# Altium integrated library QuickLogic pASIC 2.IntLib: 96 symbols (part 4 of 7)
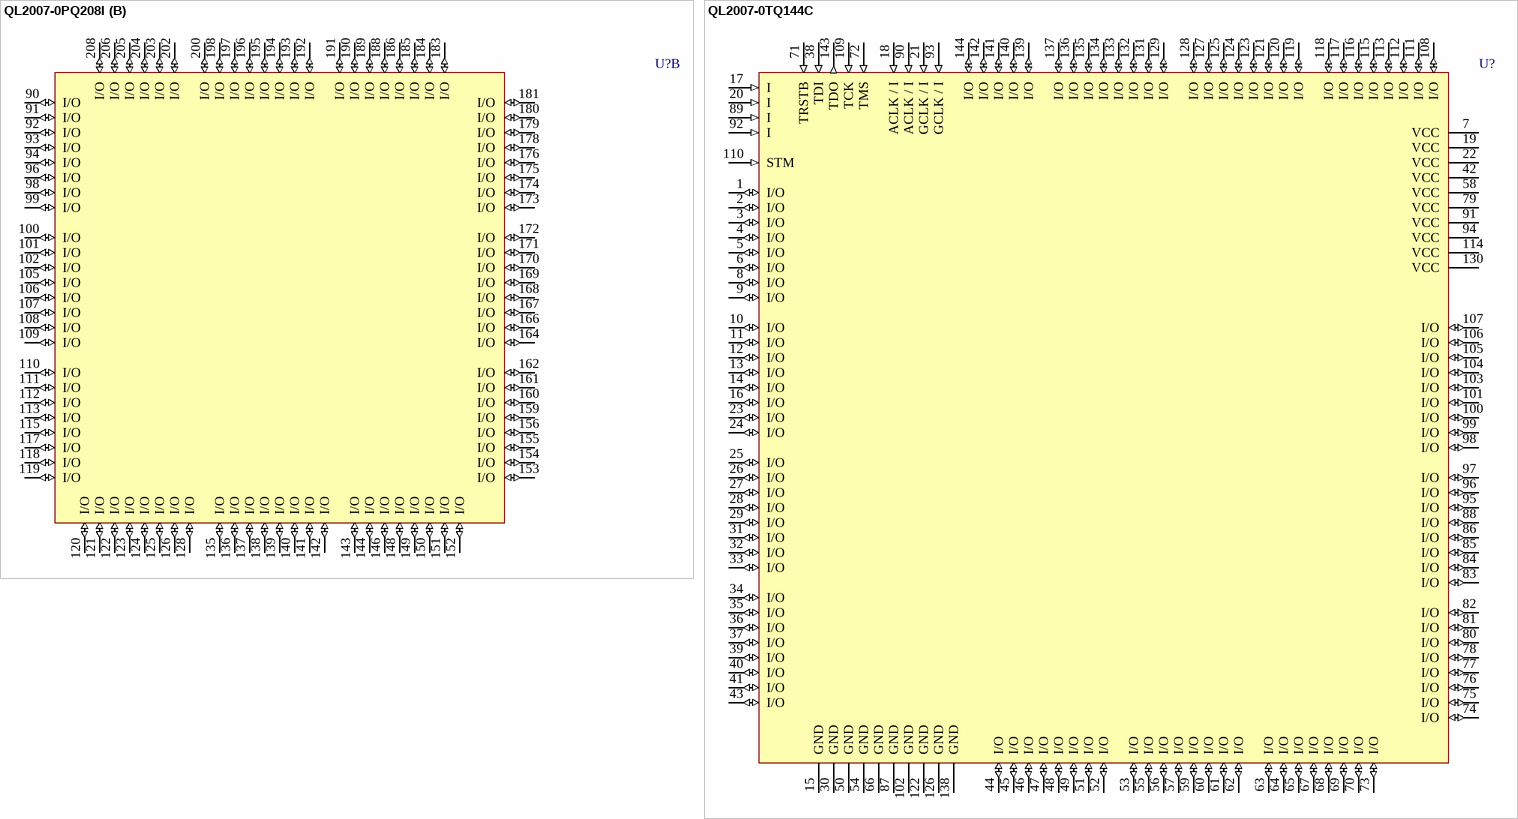
[diagram p45: symbols QL2007-0PQ208I to QL2007-0TQ144C]

## QL2007-0TQ144C
designator U?
3.3V and 5.0V FPGA, 118 I/Os Max; Published: 21-May-2003; LatestRevisionDate: 13-Apr-2006; LatestRevisionNote: IPC-7351 Footprint Added.; DatasheetVersion: Rev. E; PackageVersion: Feb-1992; PackageReference: PF144; Publisher: Altium Limited; PackageDescription: 144-Pin Thin Plastic Quad Flat Pack 0.5 mm Pitch; ComponentLink1Description: Manufacturer Link; ComponentLink1URL: http://www.quicklogic.com/; ComponentLink2Description: Datasheet; ComponentLink2URL: http://www.quicklogic.com/images/QL2007_DS.pdf; ComponentLink3Description: Discontinuation Notice; ComponentLink3URL: http://www.quicklogic.com/images/EOL_Letter_General.pdf
footprint PF144_N (Thin QFP, 144-Leads, Body 20x20mm, Pitch 0.5mm, IPC Medium Density)
footprint PF144_L (Thin QFP, 144-Leads, Body 20x20mm, Pitch 0.5mm, IPC High Density)
footprint PF144_M (Thin QFP, 144-Leads, Body 20x20mm, Pitch 0.5mm, IPC Low Density)
3D model QL2007-PF144 (144-Pin Thin Plastic Quad Flat Pack 0.5 mm Pitch)
pins: 1 I/O (io), 2 I/O (io), 3 I/O (io), 4 I/O (io), 5 I/O (io), 6 I/O (io), 7 VCC (power), 8 I/O (io), 9 I/O (io), 10 I/O (io), 11 I/O (io), 12 I/O (io), 13 I/O (io), 14 I/O (io), 15 GND (power), 16 I/O (io), 17 I (in), 18 ACLK / I (in), 19 VCC (power), 20 I (in), 21 GCLK / I (in), 22 VCC (power), 23 I/O (io), 24 I/O (io), 25 I/O (io), 26 I/O (io), 27 I/O (io), 28 I/O (io), 29 I/O (io), 30 GND (power), 31 I/O (io), 32 I/O (io), 33 I/O (io), 34 I/O (io), 35 I/O (io), 36 I/O (io), 37 I/O (io), 38 TDI (in), 39 I/O (io), 40 I/O (io), 41 I/O (io), 42 VCC (power), 43 I/O (io), 44 I/O (io), 45 I/O (io), 46 I/O (io), 47 I/O (io), 48 I/O (io), 49 I/O (io), 50 GND (power), 51 I/O (io), 52 I/O (io), 53 I/O (io), 54 GND (power), 55 I/O (io), 56 I/O (io), 57 I/O (io), 58 VCC (power), 59 I/O (io), 60 I/O (io), 61 I/O (io), 62 I/O (io), 63 I/O (io), 64 I/O (io), 65 I/O (io), 66 GND (power), 67 I/O (io), 68 I/O (io), 69 I/O (io), 70 I/O (io), 71 TRSTB (in), 72 TMS (in), 73 I/O (io), 74 I/O (io), 75 I/O (io), 76 I/O (io), 77 I/O (io), 78 I/O (io), 79 VCC (power), 80 I/O (io), 81 I/O (io), 82 I/O (io), 83 I/O (io), 84 I/O (io), 85 I/O (io), 86 I/O (io), 87 GND (power), 88 I/O (io), 89 I (in), 90 ACLK / I (in), 91 VCC (power), 92 I (in), 93 GCLK / I (in), 94 VCC (power), 95 I/O (io), 96 I/O (io), 97 I/O (io), 98 I/O (io), 99 I/O (io), 100 I/O (io), 101 I/O (io), 102 GND (power), 103 I/O (io), 104 I/O (io), 105 I/O (io), 106 I/O (io), 107 I/O (io), 108 I/O (io), 109 TCK (in), 110 STM (in), 111 I/O (io), 112 I/O (io), 113 I/O (io), 114 VCC (power), 115 I/O (io), 116 I/O (io), 117 I/O (io), 118 I/O (io), 119 I/O (io), 120 I/O (io), 121 I/O (io), 122 GND (power), 123 I/O (io), 124 I/O (io), 125 I/O (io), 126 GND (power), 127 I/O (io), 128 I/O (io), 129 I/O (io), 130 VCC (power), 131 I/O (io), 132 I/O (io), 133 I/O (io), 134 I/O (io), 135 I/O (io), 136 I/O (io), 137 I/O (io), 138 GND (power), 139 I/O (io), 140 I/O (io), 141 I/O (io), 142 I/O (io), 143 TDO (out), 144 I/O (io)

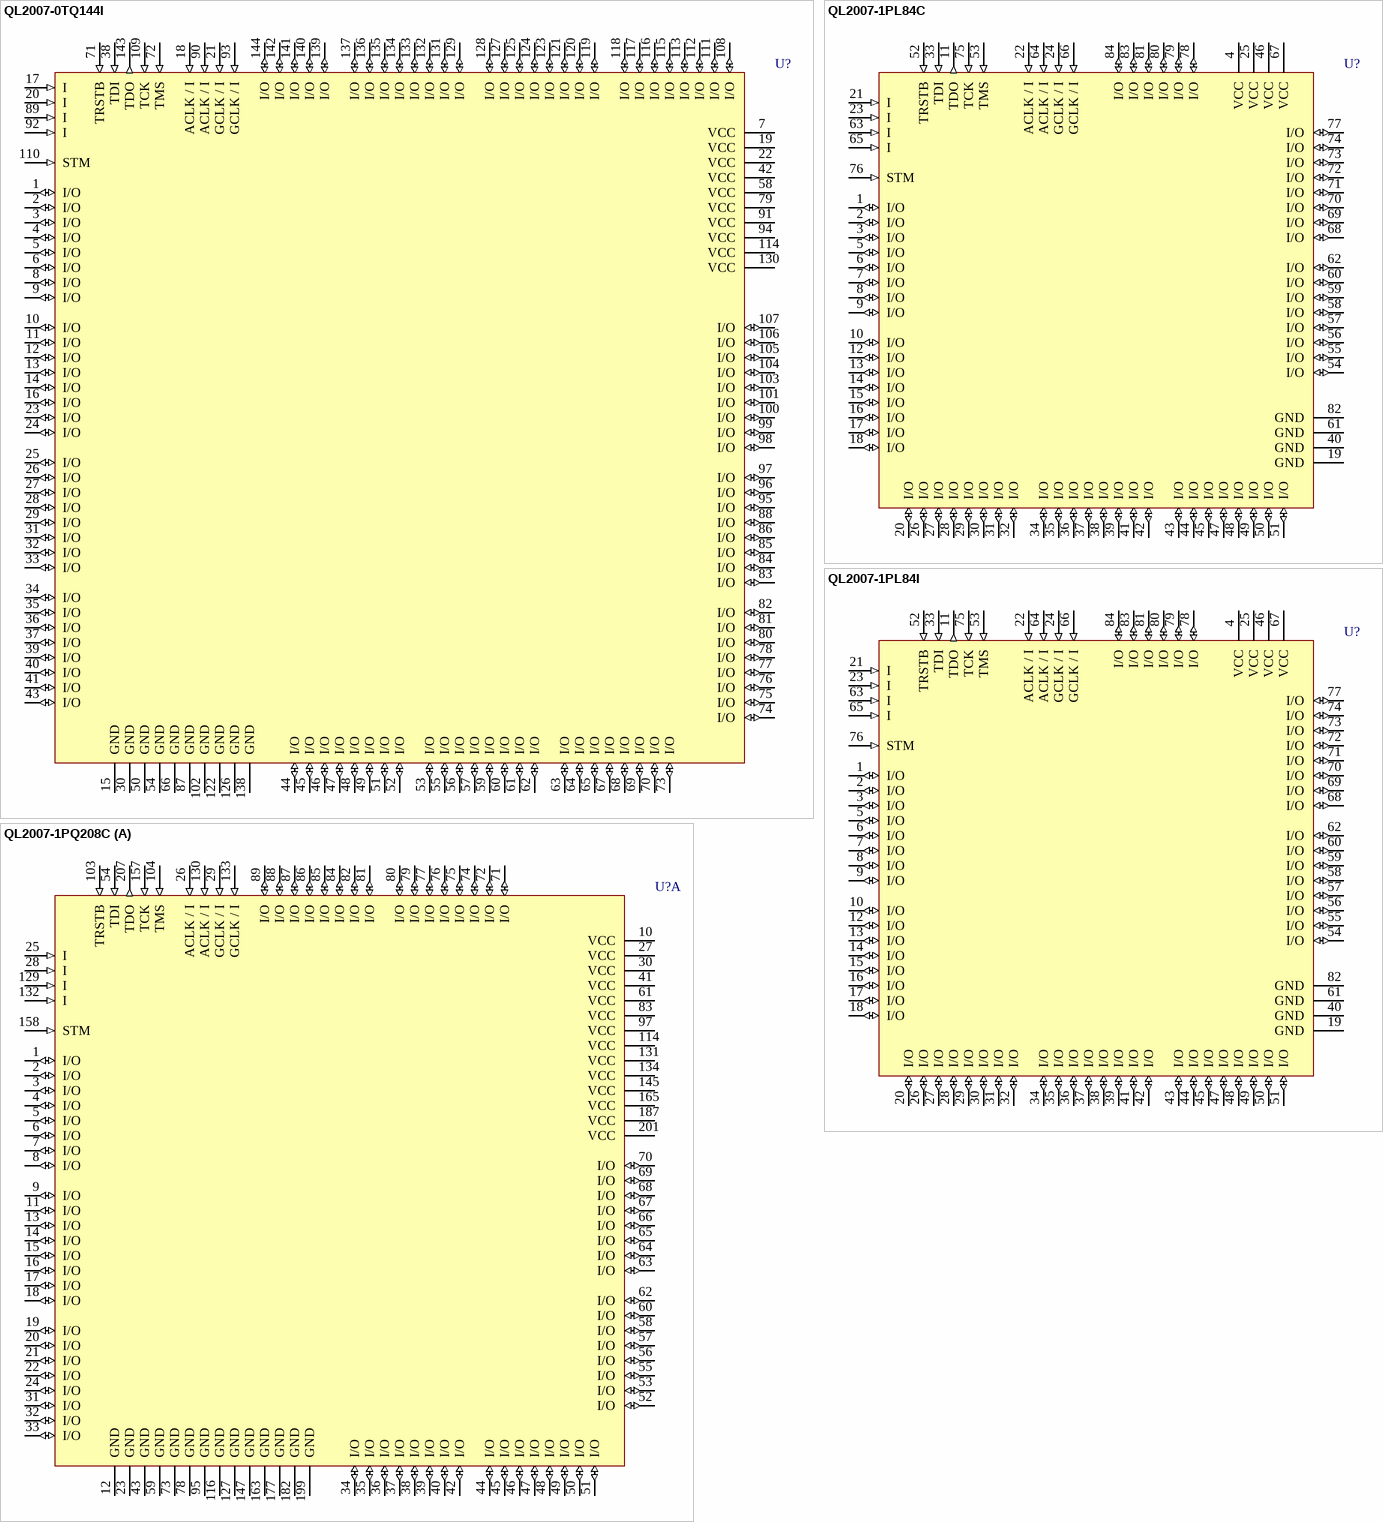
[diagram p19: symbols QL2007-0TQ144I to QL2007-1PQ208C]

## QL2007-0TQ144I
designator U?
3.3V and 5.0V FPGA, 118 I/Os Max; Published: 21-May-2003; LatestRevisionDate: 13-Apr-2006; LatestRevisionNote: IPC-7351 Footprint Added.; DatasheetVersion: Rev. E; PackageVersion: Feb-1992; PackageReference: PF144; Publisher: Altium Limited; PackageDescription: 144-Pin Thin Plastic Quad Flat Pack 0.5 mm Pitch; ComponentLink1Description: Manufacturer Link; ComponentLink1URL: http://www.quicklogic.com/; ComponentLink2Description: Datasheet; ComponentLink2URL: http://www.quicklogic.com/images/QL2007_DS.pdf; ComponentLink3Description: Discontinuation Notice; ComponentLink3URL: http://www.quicklogic.com/images/EOL_Letter_General.pdf
footprint PF144_N (Thin QFP, 144-Leads, Body 20x20mm, Pitch 0.5mm, IPC Medium Density)
footprint PF144_L (Thin QFP, 144-Leads, Body 20x20mm, Pitch 0.5mm, IPC High Density)
footprint PF144_M (Thin QFP, 144-Leads, Body 20x20mm, Pitch 0.5mm, IPC Low Density)
3D model QL2007-PF144 (144-Pin Thin Plastic Quad Flat Pack 0.5 mm Pitch)
pins: 1 I/O (io), 2 I/O (io), 3 I/O (io), 4 I/O (io), 5 I/O (io), 6 I/O (io), 7 VCC (power), 8 I/O (io), 9 I/O (io), 10 I/O (io), 11 I/O (io), 12 I/O (io), 13 I/O (io), 14 I/O (io), 15 GND (power), 16 I/O (io), 17 I (in), 18 ACLK / I (in), 19 VCC (power), 20 I (in), 21 GCLK / I (in), 22 VCC (power), 23 I/O (io), 24 I/O (io), 25 I/O (io), 26 I/O (io), 27 I/O (io), 28 I/O (io), 29 I/O (io), 30 GND (power), 31 I/O (io), 32 I/O (io), 33 I/O (io), 34 I/O (io), 35 I/O (io), 36 I/O (io), 37 I/O (io), 38 TDI (in), 39 I/O (io), 40 I/O (io), 41 I/O (io), 42 VCC (power), 43 I/O (io), 44 I/O (io), 45 I/O (io), 46 I/O (io), 47 I/O (io), 48 I/O (io), 49 I/O (io), 50 GND (power), 51 I/O (io), 52 I/O (io), 53 I/O (io), 54 GND (power), 55 I/O (io), 56 I/O (io), 57 I/O (io), 58 VCC (power), 59 I/O (io), 60 I/O (io), 61 I/O (io), 62 I/O (io), 63 I/O (io), 64 I/O (io), 65 I/O (io), 66 GND (power), 67 I/O (io), 68 I/O (io), 69 I/O (io), 70 I/O (io), 71 TRSTB (in), 72 TMS (in), 73 I/O (io), 74 I/O (io), 75 I/O (io), 76 I/O (io), 77 I/O (io), 78 I/O (io), 79 VCC (power), 80 I/O (io), 81 I/O (io), 82 I/O (io), 83 I/O (io), 84 I/O (io), 85 I/O (io), 86 I/O (io), 87 GND (power), 88 I/O (io), 89 I (in), 90 ACLK / I (in), 91 VCC (power), 92 I (in), 93 GCLK / I (in), 94 VCC (power), 95 I/O (io), 96 I/O (io), 97 I/O (io), 98 I/O (io), 99 I/O (io), 100 I/O (io), 101 I/O (io), 102 GND (power), 103 I/O (io), 104 I/O (io), 105 I/O (io), 106 I/O (io), 107 I/O (io), 108 I/O (io), 109 TCK (in), 110 STM (in), 111 I/O (io), 112 I/O (io), 113 I/O (io), 114 VCC (power), 115 I/O (io), 116 I/O (io), 117 I/O (io), 118 I/O (io), 119 I/O (io), 120 I/O (io), 121 I/O (io), 122 GND (power), 123 I/O (io), 124 I/O (io), 125 I/O (io), 126 GND (power), 127 I/O (io), 128 I/O (io), 129 I/O (io), 130 VCC (power), 131 I/O (io), 132 I/O (io), 133 I/O (io), 134 I/O (io), 135 I/O (io), 136 I/O (io), 137 I/O (io), 138 GND (power), 139 I/O (io), 140 I/O (io), 141 I/O (io), 142 I/O (io), 143 TDO (out), 144 I/O (io)

## QL2007-1PL84C
designator U?
3.3V and 5.0V FPGA, 70 I/Os Max; Published: 21-May-2003; LatestRevisionDate: 13-Apr-2006; LatestRevisionNote: IPC-7351 Footprint Added.; DatasheetVersion: Rev. E; PackageVersion: Feb-1996; PackageReference: PL84; Publisher: Altium Limited; PackageDescription: 84-Pin Plastic Leaded Chip Carrier 1.27 mm Pitch; Code_IPC: PLCC-84; ComponentLink1Description: Manufacturer Link; ComponentLink1URL: http://www.quicklogic.com/; ComponentLink2Description: Datasheet; ComponentLink2URL: http://www.quicklogic.com/images/QL2007_DS.pdf; ComponentLink3Description: Discontinuation Notice; ComponentLink3URL: http://www.quicklogic.com/images/EOL_Letter_General.pdf
footprint PL84_N (Leaded Chip Carrier, 84-Leads, Body 29.3x29.3mm, Pitch 1.27mm, IPC Medium Density)
footprint PL84_L (Leaded Chip Carrier, 84-Leads, Body 29.3x29.3mm, Pitch 1.27mm, IPC High Density)
footprint PL84_M (Leaded Chip Carrier, 84-Leads, Body 29.3x29.3mm, Pitch 1.27mm, IPC Low Density)
3D model QL2007-QCC-J84 (84-Pin Plastic Leaded Chip Carrier 1.27 mm Pitch)
pins: 1 I/O (io), 2 I/O (io), 3 I/O (io), 4 VCC (power), 5 I/O (io), 6 I/O (io), 7 I/O (io), 8 I/O (io), 9 I/O (io), 10 I/O (io), 11 TDO (out), 12 I/O (io), 13 I/O (io), 14 I/O (io), 15 I/O (io), 16 I/O (io), 17 I/O (io), 18 I/O (io), 19 GND (power), 20 I/O (io), 21 I (in), 22 ACLK / I (in), 23 I (in), 24 GCLK / I (in), 25 VCC (power), 26 I/O (io), 27 I/O (io), 28 I/O (io), 29 I/O (io), 30 I/O (io), 31 I/O (io), 32 I/O (io), 33 TDI (in), 34 I/O (io), 35 I/O (io), 36 I/O (io), 37 I/O (io), 38 I/O (io), 39 I/O (io), 40 GND (power), 41 I/O (io), 42 I/O (io), 43 I/O (io), 44 I/O (io), 45 I/O (io), 46 VCC (power), 47 I/O (io), 48 I/O (io), 49 I/O (io), 50 I/O (io), 51 I/O (io), 52 TRSTB (in), 53 TMS (in), 54 I/O (io), 55 I/O (io), 56 I/O (io), 57 I/O (io), 58 I/O (io), 59 I/O (io), 60 I/O (io), 61 GND (power), 62 I/O (io), 63 I (in), 64 ACLK / I (in), 65 I (in), 66 GCLK / I (in), 67 VCC (power), 68 I/O (io), 69 I/O (io), 70 I/O (io), 71 I/O (io), 72 I/O (io), 73 I/O (io), 74 I/O (io), 75 TCK (in), 76 STM (in), 77 I/O (io), 78 I/O (io), 79 I/O (io), 80 I/O (io), 81 I/O (io), 82 GND (power), 83 I/O (io), 84 I/O (io)

## QL2007-1PL84I
designator U?
3.3V and 5.0V FPGA, 70 I/Os Max; Published: 21-May-2003; LatestRevisionDate: 13-Apr-2006; LatestRevisionNote: IPC-7351 Footprint Added.; DatasheetVersion: Rev. E; PackageVersion: Feb-1996; PackageReference: PL84; Publisher: Altium Limited; PackageDescription: 84-Pin Plastic Leaded Chip Carrier 1.27 mm Pitch; Code_IPC: PLCC-84; ComponentLink1Description: Manufacturer Link; ComponentLink1URL: http://www.quicklogic.com/; ComponentLink2Description: Datasheet; ComponentLink2URL: http://www.quicklogic.com/images/QL2007_DS.pdf; ComponentLink3Description: Discontinuation Notice; ComponentLink3URL: http://www.quicklogic.com/images/EOL_Letter_General.pdf
footprint PL84_N (Leaded Chip Carrier, 84-Leads, Body 29.3x29.3mm, Pitch 1.27mm, IPC Medium Density)
footprint PL84_L (Leaded Chip Carrier, 84-Leads, Body 29.3x29.3mm, Pitch 1.27mm, IPC High Density)
footprint PL84_M (Leaded Chip Carrier, 84-Leads, Body 29.3x29.3mm, Pitch 1.27mm, IPC Low Density)
3D model QL2007-QCC-J84 (84-Pin Plastic Leaded Chip Carrier 1.27 mm Pitch)
pins: 1 I/O (io), 2 I/O (io), 3 I/O (io), 4 VCC (power), 5 I/O (io), 6 I/O (io), 7 I/O (io), 8 I/O (io), 9 I/O (io), 10 I/O (io), 11 TDO (out), 12 I/O (io), 13 I/O (io), 14 I/O (io), 15 I/O (io), 16 I/O (io), 17 I/O (io), 18 I/O (io), 19 GND (power), 20 I/O (io), 21 I (in), 22 ACLK / I (in), 23 I (in), 24 GCLK / I (in), 25 VCC (power), 26 I/O (io), 27 I/O (io), 28 I/O (io), 29 I/O (io), 30 I/O (io), 31 I/O (io), 32 I/O (io), 33 TDI (in), 34 I/O (io), 35 I/O (io), 36 I/O (io), 37 I/O (io), 38 I/O (io), 39 I/O (io), 40 GND (power), 41 I/O (io), 42 I/O (io), 43 I/O (io), 44 I/O (io), 45 I/O (io), 46 VCC (power), 47 I/O (io), 48 I/O (io), 49 I/O (io), 50 I/O (io), 51 I/O (io), 52 TRSTB (in), 53 TMS (in), 54 I/O (io), 55 I/O (io), 56 I/O (io), 57 I/O (io), 58 I/O (io), 59 I/O (io), 60 I/O (io), 61 GND (power), 62 I/O (io), 63 I (in), 64 ACLK / I (in), 65 I (in), 66 GCLK / I (in), 67 VCC (power), 68 I/O (io), 69 I/O (io), 70 I/O (io), 71 I/O (io), 72 I/O (io), 73 I/O (io), 74 I/O (io), 75 TCK (in), 76 STM (in), 77 I/O (io), 78 I/O (io), 79 I/O (io), 80 I/O (io), 81 I/O (io), 82 GND (power), 83 I/O (io), 84 I/O (io)

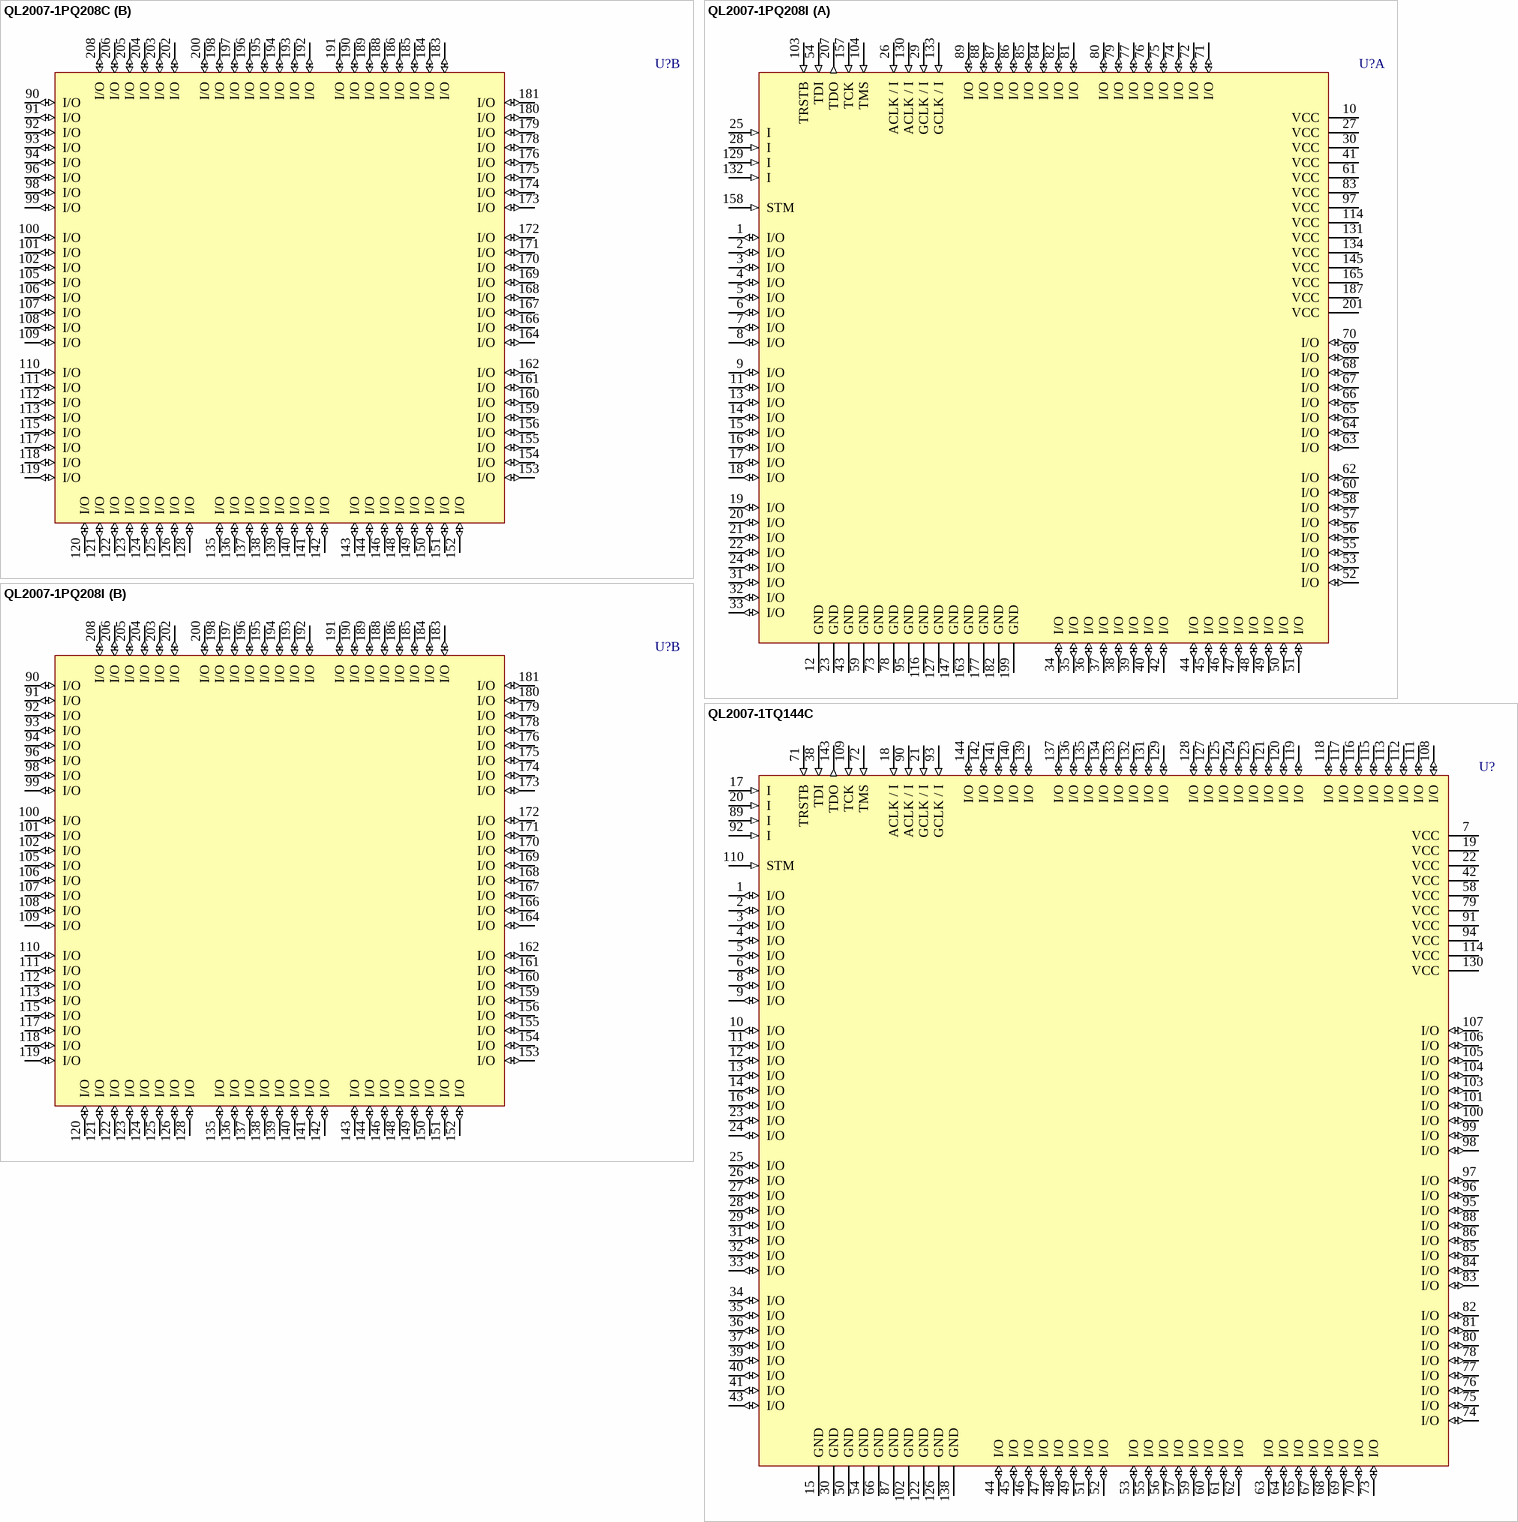
[diagram p20: symbols QL2007-1PQ208C to QL2007-1TQ144C]

## QL2007-1PQ208C
designator U?
3.3V and 5.0V FPGA, 174 I/Os Max; Published: 21-May-2003; LatestRevisionDate: 13-Apr-2006; LatestRevisionNote: IPC-7351 Footprint Added.; DatasheetVersion: Rev. E; PackageVersion: Feb-1995; PackageReference: PQ208; Publisher: Altium Limited; PackageDescription: 208-Pin Shrink Quad Flat Pack 0.5 mm Pitch; ComponentLink1Description: Manufacturer Link; ComponentLink1URL: http://www.quicklogic.com/; ComponentLink2Description: Datasheet; ComponentLink2URL: http://www.quicklogic.com/images/QL2007_DS.pdf; ComponentLink3Description: Discontinuation Notice; ComponentLink3URL: http://www.quicklogic.com/images/EOL_Letter_General.pdf
footprint PQ208_N (Shrink QFP, 208-Leads, Body 28x28mm, Pitch 0.5mm, IPC Medium Density)
footprint PQ208_L (Shrink QFP, 208-Leads, Body 28x28mm, Pitch 0.5mm, IPC High Density)
footprint PQ208_M (Shrink QFP, 208-Leads, Body 28x28mm, Pitch 0.5mm, IPC Low Density)
3D model QL2007-PQ208 (208-Pin Shrink Quad Flat Pack 0.5 mm Pitch)
part A pins: 1 I/O (io), 2 I/O (io), 3 I/O (io), 4 I/O (io), 5 I/O (io), 6 I/O (io), 7 I/O (io), 8 I/O (io), 9 I/O (io), 10 VCC (power), 11 I/O (io), 12 GND (power), 13 I/O (io), 14 I/O (io), 15 I/O (io), 16 I/O (io), 17 I/O (io), 18 I/O (io), 19 I/O (io), 20 I/O (io), 21 I/O (io), 22 I/O (io), 23 GND (power), 24 I/O (io), 25 I (in), 26 ACLK / I (in), 27 VCC (power), 28 I (in), 29 GCLK / I (in), 30 VCC (power), 31 I/O (io), 32 I/O (io), 33 I/O (io), 34 I/O (io), 35 I/O (io), 36 I/O (io), 37 I/O (io), 38 I/O (io), 39 I/O (io), 40 I/O (io), 41 VCC (power), 42 I/O (io), 43 GND (power), 44 I/O (io), 45 I/O (io), 46 I/O (io), 47 I/O (io), 48 I/O (io), 49 I/O (io), 50 I/O (io), 51 I/O (io), 52 I/O (io), 53 I/O (io), 54 TDI (in), 55 I/O (io), 56 I/O (io), 57 I/O (io), 58 I/O (io), 59 GND (power), 60 I/O (io), 61 VCC (power), 62 I/O (io), 63 I/O (io), 64 I/O (io), 65 I/O (io), 66 I/O (io), 67 I/O (io), 68 I/O (io), 69 I/O (io), 70 I/O (io), 71 I/O (io), 72 I/O (io), 73 GND (power), 74 I/O (io), 75 I/O (io), 76 I/O (io), 77 I/O (io), 78 GND (power), 79 I/O (io), 80 I/O (io), 81 I/O (io), 82 I/O (io), 83 VCC (power), 84 I/O (io), 85 I/O (io), 86 I/O (io), 87 I/O (io), 88 I/O (io), 89 I/O (io), 95 GND (power), 97 VCC (power), 103 TRSTB (in), 104 TMS (in), 114 VCC (power), 116 GND (power), 127 GND (power), 129 I (in), 130 ACLK / I (in), 131 VCC (power), 132 I (in), 133 GCLK / I (in), 134 VCC (power), 145 VCC (power), 147 GND (power), 157 TCK (in), 158 STM (in), 163 GND (power), 165 VCC (power), 177 GND (power), 182 GND (power), 187 VCC (power), 199 GND (power), 201 VCC (power), 207 TDO (out)
part B pins: 90 I/O (io), 91 I/O (io), 92 I/O (io), 93 I/O (io), 94 I/O (io), 96 I/O (io), 98 I/O (io), 99 I/O (io), 100 I/O (io), 101 I/O (io), 102 I/O (io), 105 I/O (io), 106 I/O (io), 107 I/O (io), 108 I/O (io), 109 I/O (io), 110 I/O (io), 111 I/O (io), 112 I/O (io), 113 I/O (io), 115 I/O (io), 117 I/O (io), 118 I/O (io), 119 I/O (io), 120 I/O (io), 121 I/O (io), 122 I/O (io), 123 I/O (io), 124 I/O (io), 125 I/O (io), 126 I/O (io), 128 I/O (io), 135 I/O (io), 136 I/O (io), 137 I/O (io), 138 I/O (io), 139 I/O (io), 140 I/O (io), 141 I/O (io), 142 I/O (io), 143 I/O (io), 144 I/O (io), 146 I/O (io), 148 I/O (io), 149 I/O (io), 150 I/O (io), 151 I/O (io), 152 I/O (io), 153 I/O (io), 154 I/O (io), 155 I/O (io), 156 I/O (io), 159 I/O (io), 160 I/O (io), 161 I/O (io), 162 I/O (io), 164 I/O (io), 166 I/O (io), 167 I/O (io), 168 I/O (io), 169 I/O (io), 170 I/O (io), 171 I/O (io), 172 I/O (io), 173 I/O (io), 174 I/O (io), 175 I/O (io), 176 I/O (io), 178 I/O (io), 179 I/O (io), 180 I/O (io), 181 I/O (io), 183 I/O (io), 184 I/O (io), 185 I/O (io), 186 I/O (io), 188 I/O (io), 189 I/O (io), 190 I/O (io), 191 I/O (io), 192 I/O (io), 193 I/O (io), 194 I/O (io), 195 I/O (io), 196 I/O (io), 197 I/O (io), 198 I/O (io), 200 I/O (io), 202 I/O (io), 203 I/O (io), 204 I/O (io), 205 I/O (io), 206 I/O (io), 208 I/O (io)

## QL2007-1PQ208I
designator U?
3.3V and 5.0V FPGA, 174 I/Os Max; Published: 21-May-2003; LatestRevisionDate: 13-Apr-2006; LatestRevisionNote: IPC-7351 Footprint Added.; DatasheetVersion: Rev. E; PackageVersion: Feb-1995; PackageReference: PQ208; Publisher: Altium Limited; PackageDescription: 208-Pin Shrink Quad Flat Pack 0.5 mm Pitch; ComponentLink1Description: Manufacturer Link; ComponentLink1URL: http://www.quicklogic.com/; ComponentLink2Description: Datasheet; ComponentLink2URL: http://www.quicklogic.com/images/QL2007_DS.pdf; ComponentLink3Description: Discontinuation Notice; ComponentLink3URL: http://www.quicklogic.com/images/EOL_Letter_General.pdf
footprint PQ208_N (Shrink QFP, 208-Leads, Body 28x28mm, Pitch 0.5mm, IPC Medium Density)
footprint PQ208_L (Shrink QFP, 208-Leads, Body 28x28mm, Pitch 0.5mm, IPC High Density)
footprint PQ208_M (Shrink QFP, 208-Leads, Body 28x28mm, Pitch 0.5mm, IPC Low Density)
3D model QL2007-PQ208 (208-Pin Shrink Quad Flat Pack 0.5 mm Pitch)
part A pins: 1 I/O (io), 2 I/O (io), 3 I/O (io), 4 I/O (io), 5 I/O (io), 6 I/O (io), 7 I/O (io), 8 I/O (io), 9 I/O (io), 10 VCC (power), 11 I/O (io), 12 GND (power), 13 I/O (io), 14 I/O (io), 15 I/O (io), 16 I/O (io), 17 I/O (io), 18 I/O (io), 19 I/O (io), 20 I/O (io), 21 I/O (io), 22 I/O (io), 23 GND (power), 24 I/O (io), 25 I (in), 26 ACLK / I (in), 27 VCC (power), 28 I (in), 29 GCLK / I (in), 30 VCC (power), 31 I/O (io), 32 I/O (io), 33 I/O (io), 34 I/O (io), 35 I/O (io), 36 I/O (io), 37 I/O (io), 38 I/O (io), 39 I/O (io), 40 I/O (io), 41 VCC (power), 42 I/O (io), 43 GND (power), 44 I/O (io), 45 I/O (io), 46 I/O (io), 47 I/O (io), 48 I/O (io), 49 I/O (io), 50 I/O (io), 51 I/O (io), 52 I/O (io), 53 I/O (io), 54 TDI (in), 55 I/O (io), 56 I/O (io), 57 I/O (io), 58 I/O (io), 59 GND (power), 60 I/O (io), 61 VCC (power), 62 I/O (io), 63 I/O (io), 64 I/O (io), 65 I/O (io), 66 I/O (io), 67 I/O (io), 68 I/O (io), 69 I/O (io), 70 I/O (io), 71 I/O (io), 72 I/O (io), 73 GND (power), 74 I/O (io), 75 I/O (io), 76 I/O (io), 77 I/O (io), 78 GND (power), 79 I/O (io), 80 I/O (io), 81 I/O (io), 82 I/O (io), 83 VCC (power), 84 I/O (io), 85 I/O (io), 86 I/O (io), 87 I/O (io), 88 I/O (io), 89 I/O (io), 95 GND (power), 97 VCC (power), 103 TRSTB (in), 104 TMS (in), 114 VCC (power), 116 GND (power), 127 GND (power), 129 I (in), 130 ACLK / I (in), 131 VCC (power), 132 I (in), 133 GCLK / I (in), 134 VCC (power), 145 VCC (power), 147 GND (power), 157 TCK (in), 158 STM (in), 163 GND (power), 165 VCC (power), 177 GND (power), 182 GND (power), 187 VCC (power), 199 GND (power), 201 VCC (power), 207 TDO (out)
part B pins: 90 I/O (io), 91 I/O (io), 92 I/O (io), 93 I/O (io), 94 I/O (io), 96 I/O (io), 98 I/O (io), 99 I/O (io), 100 I/O (io), 101 I/O (io), 102 I/O (io), 105 I/O (io), 106 I/O (io), 107 I/O (io), 108 I/O (io), 109 I/O (io), 110 I/O (io), 111 I/O (io), 112 I/O (io), 113 I/O (io), 115 I/O (io), 117 I/O (io), 118 I/O (io), 119 I/O (io), 120 I/O (io), 121 I/O (io), 122 I/O (io), 123 I/O (io), 124 I/O (io), 125 I/O (io), 126 I/O (io), 128 I/O (io), 135 I/O (io), 136 I/O (io), 137 I/O (io), 138 I/O (io), 139 I/O (io), 140 I/O (io), 141 I/O (io), 142 I/O (io), 143 I/O (io), 144 I/O (io), 146 I/O (io), 148 I/O (io), 149 I/O (io), 150 I/O (io), 151 I/O (io), 152 I/O (io), 153 I/O (io), 154 I/O (io), 155 I/O (io), 156 I/O (io), 159 I/O (io), 160 I/O (io), 161 I/O (io), 162 I/O (io), 164 I/O (io), 166 I/O (io), 167 I/O (io), 168 I/O (io), 169 I/O (io), 170 I/O (io), 171 I/O (io), 172 I/O (io), 173 I/O (io), 174 I/O (io), 175 I/O (io), 176 I/O (io), 178 I/O (io), 179 I/O (io), 180 I/O (io), 181 I/O (io), 183 I/O (io), 184 I/O (io), 185 I/O (io), 186 I/O (io), 188 I/O (io), 189 I/O (io), 190 I/O (io), 191 I/O (io), 192 I/O (io), 193 I/O (io), 194 I/O (io), 195 I/O (io), 196 I/O (io), 197 I/O (io), 198 I/O (io), 200 I/O (io), 202 I/O (io), 203 I/O (io), 204 I/O (io), 205 I/O (io), 206 I/O (io), 208 I/O (io)

## QL2007-1TQ144C
designator U?
3.3V and 5.0V FPGA, 118 I/Os Max; Published: 21-May-2003; LatestRevisionDate: 13-Apr-2006; LatestRevisionNote: IPC-7351 Footprint Added.; DatasheetVersion: Rev. E; PackageVersion: Feb-1992; PackageReference: PF144; Publisher: Altium Limited; PackageDescription: 144-Pin Thin Plastic Quad Flat Pack 0.5 mm Pitch; ComponentLink1Description: Manufacturer Link; ComponentLink1URL: http://www.quicklogic.com/; ComponentLink2Description: Datasheet; ComponentLink2URL: http://www.quicklogic.com/images/QL2007_DS.pdf; ComponentLink3Description: Discontinuation Notice; ComponentLink3URL: http://www.quicklogic.com/images/EOL_Letter_General.pdf
footprint PF144_N (Thin QFP, 144-Leads, Body 20x20mm, Pitch 0.5mm, IPC Medium Density)
footprint PF144_L (Thin QFP, 144-Leads, Body 20x20mm, Pitch 0.5mm, IPC High Density)
footprint PF144_M (Thin QFP, 144-Leads, Body 20x20mm, Pitch 0.5mm, IPC Low Density)
3D model QL2007-PF144 (144-Pin Thin Plastic Quad Flat Pack 0.5 mm Pitch)
pins: 1 I/O (io), 2 I/O (io), 3 I/O (io), 4 I/O (io), 5 I/O (io), 6 I/O (io), 7 VCC (power), 8 I/O (io), 9 I/O (io), 10 I/O (io), 11 I/O (io), 12 I/O (io), 13 I/O (io), 14 I/O (io), 15 GND (power), 16 I/O (io), 17 I (in), 18 ACLK / I (in), 19 VCC (power), 20 I (in), 21 GCLK / I (in), 22 VCC (power), 23 I/O (io), 24 I/O (io), 25 I/O (io), 26 I/O (io), 27 I/O (io), 28 I/O (io), 29 I/O (io), 30 GND (power), 31 I/O (io), 32 I/O (io), 33 I/O (io), 34 I/O (io), 35 I/O (io), 36 I/O (io), 37 I/O (io), 38 TDI (in), 39 I/O (io), 40 I/O (io), 41 I/O (io), 42 VCC (power), 43 I/O (io), 44 I/O (io), 45 I/O (io), 46 I/O (io), 47 I/O (io), 48 I/O (io), 49 I/O (io), 50 GND (power), 51 I/O (io), 52 I/O (io), 53 I/O (io), 54 GND (power), 55 I/O (io), 56 I/O (io), 57 I/O (io), 58 VCC (power), 59 I/O (io), 60 I/O (io), 61 I/O (io), 62 I/O (io), 63 I/O (io), 64 I/O (io), 65 I/O (io), 66 GND (power), 67 I/O (io), 68 I/O (io), 69 I/O (io), 70 I/O (io), 71 TRSTB (in), 72 TMS (in), 73 I/O (io), 74 I/O (io), 75 I/O (io), 76 I/O (io), 77 I/O (io), 78 I/O (io), 79 VCC (power), 80 I/O (io), 81 I/O (io), 82 I/O (io), 83 I/O (io), 84 I/O (io), 85 I/O (io), 86 I/O (io), 87 GND (power), 88 I/O (io), 89 I (in), 90 ACLK / I (in), 91 VCC (power), 92 I (in), 93 GCLK / I (in), 94 VCC (power), 95 I/O (io), 96 I/O (io), 97 I/O (io), 98 I/O (io), 99 I/O (io), 100 I/O (io), 101 I/O (io), 102 GND (power), 103 I/O (io), 104 I/O (io), 105 I/O (io), 106 I/O (io), 107 I/O (io), 108 I/O (io), 109 TCK (in), 110 STM (in), 111 I/O (io), 112 I/O (io), 113 I/O (io), 114 VCC (power), 115 I/O (io), 116 I/O (io), 117 I/O (io), 118 I/O (io), 119 I/O (io), 120 I/O (io), 121 I/O (io), 122 GND (power), 123 I/O (io), 124 I/O (io), 125 I/O (io), 126 GND (power), 127 I/O (io), 128 I/O (io), 129 I/O (io), 130 VCC (power), 131 I/O (io), 132 I/O (io), 133 I/O (io), 134 I/O (io), 135 I/O (io), 136 I/O (io), 137 I/O (io), 138 GND (power), 139 I/O (io), 140 I/O (io), 141 I/O (io), 142 I/O (io), 143 TDO (out), 144 I/O (io)

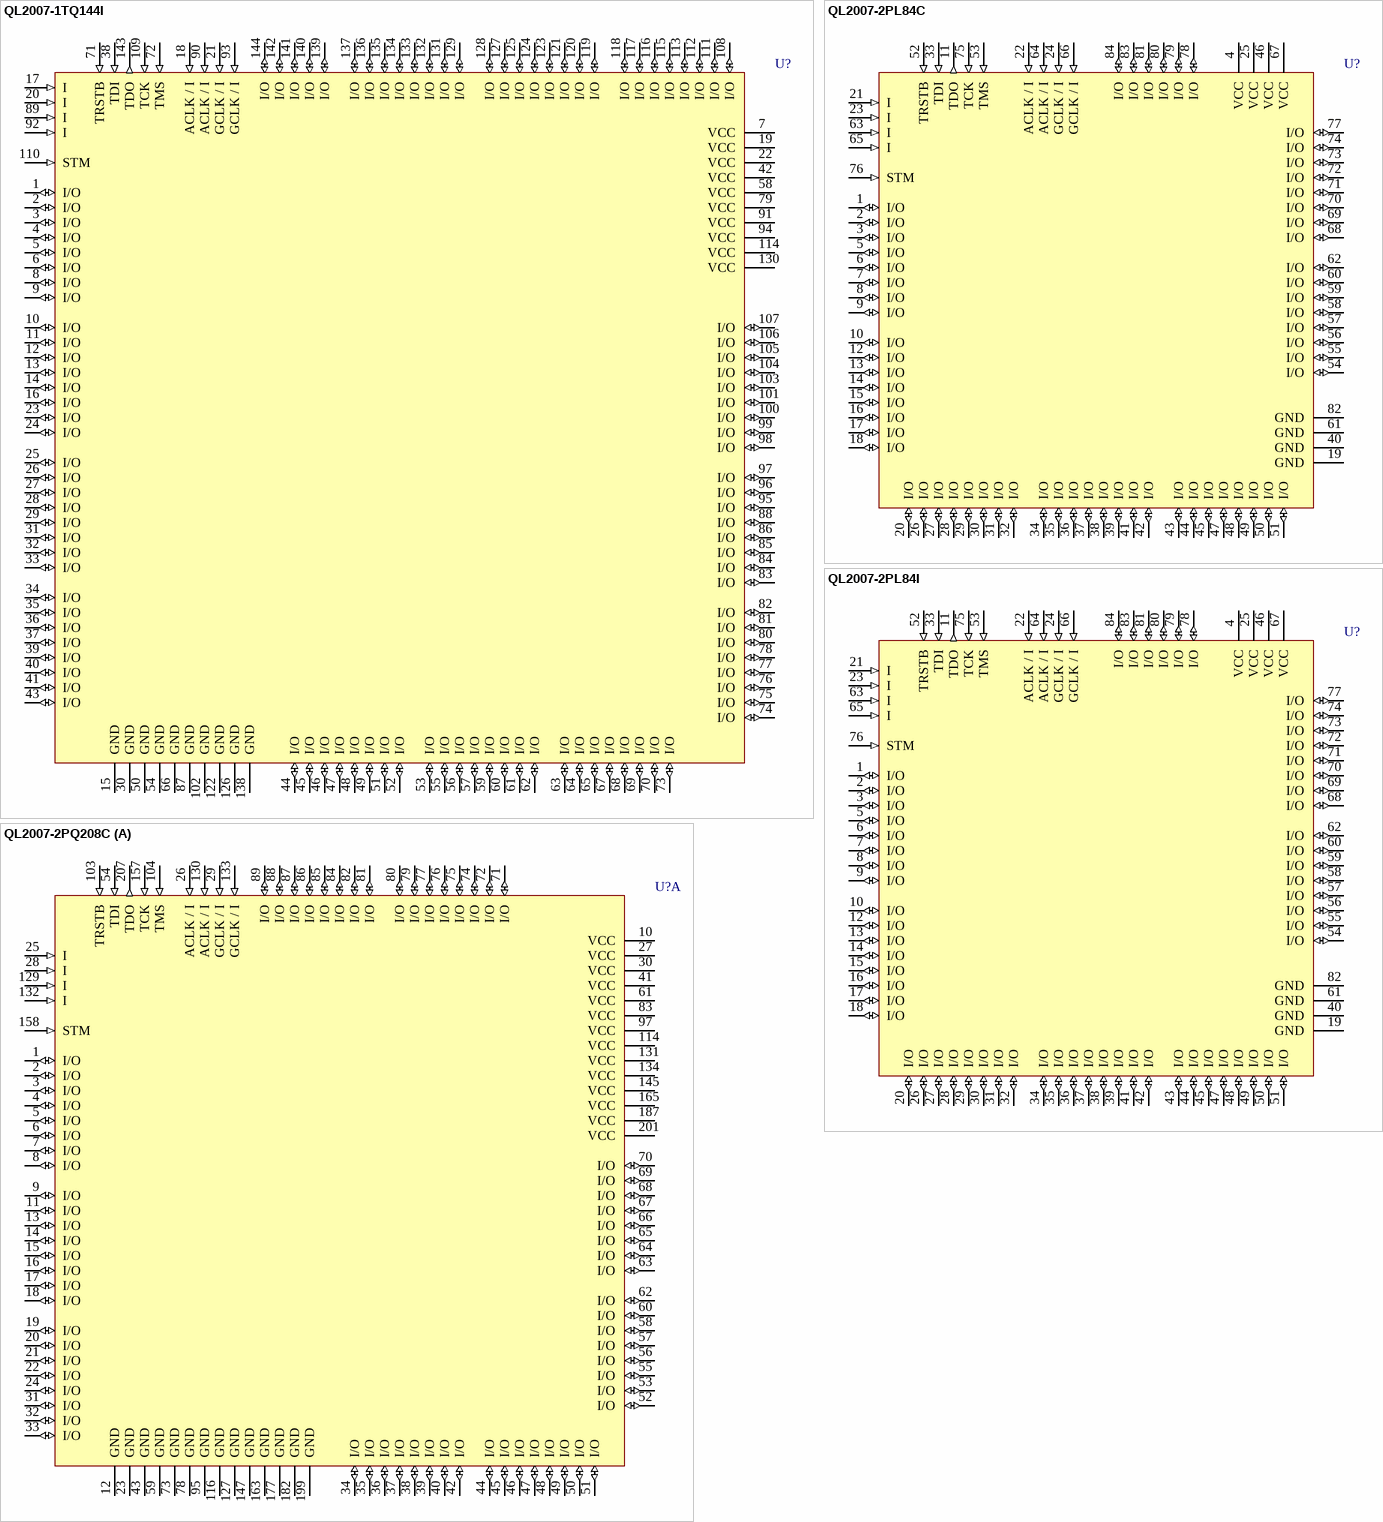
[diagram p21: symbols QL2007-1TQ144I to QL2007-2PQ208C]

## QL2007-1TQ144I
designator U?
3.3V and 5.0V FPGA, 118 I/Os Max; Published: 21-May-2003; LatestRevisionDate: 13-Apr-2006; LatestRevisionNote: IPC-7351 Footprint Added.; DatasheetVersion: Rev. E; PackageVersion: Feb-1992; PackageReference: PF144; Publisher: Altium Limited; PackageDescription: 144-Pin Thin Plastic Quad Flat Pack 0.5 mm Pitch; ComponentLink1Description: Manufacturer Link; ComponentLink1URL: http://www.quicklogic.com/; ComponentLink2Description: Datasheet; ComponentLink2URL: http://www.quicklogic.com/images/QL2007_DS.pdf; ComponentLink3Description: Discontinuation Notice; ComponentLink3URL: http://www.quicklogic.com/images/EOL_Letter_General.pdf
footprint PF144_N (Thin QFP, 144-Leads, Body 20x20mm, Pitch 0.5mm, IPC Medium Density)
footprint PF144_L (Thin QFP, 144-Leads, Body 20x20mm, Pitch 0.5mm, IPC High Density)
footprint PF144_M (Thin QFP, 144-Leads, Body 20x20mm, Pitch 0.5mm, IPC Low Density)
3D model QL2007-PF144 (144-Pin Thin Plastic Quad Flat Pack 0.5 mm Pitch)
pins: 1 I/O (io), 2 I/O (io), 3 I/O (io), 4 I/O (io), 5 I/O (io), 6 I/O (io), 7 VCC (power), 8 I/O (io), 9 I/O (io), 10 I/O (io), 11 I/O (io), 12 I/O (io), 13 I/O (io), 14 I/O (io), 15 GND (power), 16 I/O (io), 17 I (in), 18 ACLK / I (in), 19 VCC (power), 20 I (in), 21 GCLK / I (in), 22 VCC (power), 23 I/O (io), 24 I/O (io), 25 I/O (io), 26 I/O (io), 27 I/O (io), 28 I/O (io), 29 I/O (io), 30 GND (power), 31 I/O (io), 32 I/O (io), 33 I/O (io), 34 I/O (io), 35 I/O (io), 36 I/O (io), 37 I/O (io), 38 TDI (in), 39 I/O (io), 40 I/O (io), 41 I/O (io), 42 VCC (power), 43 I/O (io), 44 I/O (io), 45 I/O (io), 46 I/O (io), 47 I/O (io), 48 I/O (io), 49 I/O (io), 50 GND (power), 51 I/O (io), 52 I/O (io), 53 I/O (io), 54 GND (power), 55 I/O (io), 56 I/O (io), 57 I/O (io), 58 VCC (power), 59 I/O (io), 60 I/O (io), 61 I/O (io), 62 I/O (io), 63 I/O (io), 64 I/O (io), 65 I/O (io), 66 GND (power), 67 I/O (io), 68 I/O (io), 69 I/O (io), 70 I/O (io), 71 TRSTB (in), 72 TMS (in), 73 I/O (io), 74 I/O (io), 75 I/O (io), 76 I/O (io), 77 I/O (io), 78 I/O (io), 79 VCC (power), 80 I/O (io), 81 I/O (io), 82 I/O (io), 83 I/O (io), 84 I/O (io), 85 I/O (io), 86 I/O (io), 87 GND (power), 88 I/O (io), 89 I (in), 90 ACLK / I (in), 91 VCC (power), 92 I (in), 93 GCLK / I (in), 94 VCC (power), 95 I/O (io), 96 I/O (io), 97 I/O (io), 98 I/O (io), 99 I/O (io), 100 I/O (io), 101 I/O (io), 102 GND (power), 103 I/O (io), 104 I/O (io), 105 I/O (io), 106 I/O (io), 107 I/O (io), 108 I/O (io), 109 TCK (in), 110 STM (in), 111 I/O (io), 112 I/O (io), 113 I/O (io), 114 VCC (power), 115 I/O (io), 116 I/O (io), 117 I/O (io), 118 I/O (io), 119 I/O (io), 120 I/O (io), 121 I/O (io), 122 GND (power), 123 I/O (io), 124 I/O (io), 125 I/O (io), 126 GND (power), 127 I/O (io), 128 I/O (io), 129 I/O (io), 130 VCC (power), 131 I/O (io), 132 I/O (io), 133 I/O (io), 134 I/O (io), 135 I/O (io), 136 I/O (io), 137 I/O (io), 138 GND (power), 139 I/O (io), 140 I/O (io), 141 I/O (io), 142 I/O (io), 143 TDO (out), 144 I/O (io)

## QL2007-2PL84C
designator U?
3.3V and 5.0V FPGA, 70 I/Os Max; Published: 21-May-2003; LatestRevisionDate: 13-Apr-2006; LatestRevisionNote: IPC-7351 Footprint Added.; DatasheetVersion: Rev. E; PackageVersion: Feb-1996; PackageReference: PL84; Publisher: Altium Limited; PackageDescription: 84-Pin Plastic Leaded Chip Carrier 1.27 mm Pitch; Code_IPC: PLCC-84; ComponentLink1Description: Manufacturer Link; ComponentLink1URL: http://www.quicklogic.com/; ComponentLink2Description: Datasheet; ComponentLink2URL: http://www.quicklogic.com/images/QL2007_DS.pdf; ComponentLink3Description: Discontinuation Notice; ComponentLink3URL: http://www.quicklogic.com/images/EOL_Letter_General.pdf
footprint PL84_N (Leaded Chip Carrier, 84-Leads, Body 29.3x29.3mm, Pitch 1.27mm, IPC Medium Density)
footprint PL84_L (Leaded Chip Carrier, 84-Leads, Body 29.3x29.3mm, Pitch 1.27mm, IPC High Density)
footprint PL84_M (Leaded Chip Carrier, 84-Leads, Body 29.3x29.3mm, Pitch 1.27mm, IPC Low Density)
3D model QL2007-QCC-J84 (84-Pin Plastic Leaded Chip Carrier 1.27 mm Pitch)
pins: 1 I/O (io), 2 I/O (io), 3 I/O (io), 4 VCC (power), 5 I/O (io), 6 I/O (io), 7 I/O (io), 8 I/O (io), 9 I/O (io), 10 I/O (io), 11 TDO (out), 12 I/O (io), 13 I/O (io), 14 I/O (io), 15 I/O (io), 16 I/O (io), 17 I/O (io), 18 I/O (io), 19 GND (power), 20 I/O (io), 21 I (in), 22 ACLK / I (in), 23 I (in), 24 GCLK / I (in), 25 VCC (power), 26 I/O (io), 27 I/O (io), 28 I/O (io), 29 I/O (io), 30 I/O (io), 31 I/O (io), 32 I/O (io), 33 TDI (in), 34 I/O (io), 35 I/O (io), 36 I/O (io), 37 I/O (io), 38 I/O (io), 39 I/O (io), 40 GND (power), 41 I/O (io), 42 I/O (io), 43 I/O (io), 44 I/O (io), 45 I/O (io), 46 VCC (power), 47 I/O (io), 48 I/O (io), 49 I/O (io), 50 I/O (io), 51 I/O (io), 52 TRSTB (in), 53 TMS (in), 54 I/O (io), 55 I/O (io), 56 I/O (io), 57 I/O (io), 58 I/O (io), 59 I/O (io), 60 I/O (io), 61 GND (power), 62 I/O (io), 63 I (in), 64 ACLK / I (in), 65 I (in), 66 GCLK / I (in), 67 VCC (power), 68 I/O (io), 69 I/O (io), 70 I/O (io), 71 I/O (io), 72 I/O (io), 73 I/O (io), 74 I/O (io), 75 TCK (in), 76 STM (in), 77 I/O (io), 78 I/O (io), 79 I/O (io), 80 I/O (io), 81 I/O (io), 82 GND (power), 83 I/O (io), 84 I/O (io)

## QL2007-2PL84I
designator U?
3.3V and 5.0V FPGA, 70 I/Os Max; Published: 21-May-2003; LatestRevisionDate: 13-Apr-2006; LatestRevisionNote: IPC-7351 Footprint Added.; DatasheetVersion: Rev. E; PackageVersion: Feb-1996; PackageReference: PL84; Publisher: Altium Limited; PackageDescription: 84-Pin Plastic Leaded Chip Carrier 1.27 mm Pitch; Code_IPC: PLCC-84; ComponentLink1Description: Manufacturer Link; ComponentLink1URL: http://www.quicklogic.com/; ComponentLink2Description: Datasheet; ComponentLink2URL: http://www.quicklogic.com/images/QL2007_DS.pdf; ComponentLink3Description: Discontinuation Notice; ComponentLink3URL: http://www.quicklogic.com/images/EOL_Letter_General.pdf
footprint PL84_N (Leaded Chip Carrier, 84-Leads, Body 29.3x29.3mm, Pitch 1.27mm, IPC Medium Density)
footprint PL84_L (Leaded Chip Carrier, 84-Leads, Body 29.3x29.3mm, Pitch 1.27mm, IPC High Density)
footprint PL84_M (Leaded Chip Carrier, 84-Leads, Body 29.3x29.3mm, Pitch 1.27mm, IPC Low Density)
3D model QL2007-QCC-J84 (84-Pin Plastic Leaded Chip Carrier 1.27 mm Pitch)
pins: 1 I/O (io), 2 I/O (io), 3 I/O (io), 4 VCC (power), 5 I/O (io), 6 I/O (io), 7 I/O (io), 8 I/O (io), 9 I/O (io), 10 I/O (io), 11 TDO (out), 12 I/O (io), 13 I/O (io), 14 I/O (io), 15 I/O (io), 16 I/O (io), 17 I/O (io), 18 I/O (io), 19 GND (power), 20 I/O (io), 21 I (in), 22 ACLK / I (in), 23 I (in), 24 GCLK / I (in), 25 VCC (power), 26 I/O (io), 27 I/O (io), 28 I/O (io), 29 I/O (io), 30 I/O (io), 31 I/O (io), 32 I/O (io), 33 TDI (in), 34 I/O (io), 35 I/O (io), 36 I/O (io), 37 I/O (io), 38 I/O (io), 39 I/O (io), 40 GND (power), 41 I/O (io), 42 I/O (io), 43 I/O (io), 44 I/O (io), 45 I/O (io), 46 VCC (power), 47 I/O (io), 48 I/O (io), 49 I/O (io), 50 I/O (io), 51 I/O (io), 52 TRSTB (in), 53 TMS (in), 54 I/O (io), 55 I/O (io), 56 I/O (io), 57 I/O (io), 58 I/O (io), 59 I/O (io), 60 I/O (io), 61 GND (power), 62 I/O (io), 63 I (in), 64 ACLK / I (in), 65 I (in), 66 GCLK / I (in), 67 VCC (power), 68 I/O (io), 69 I/O (io), 70 I/O (io), 71 I/O (io), 72 I/O (io), 73 I/O (io), 74 I/O (io), 75 TCK (in), 76 STM (in), 77 I/O (io), 78 I/O (io), 79 I/O (io), 80 I/O (io), 81 I/O (io), 82 GND (power), 83 I/O (io), 84 I/O (io)

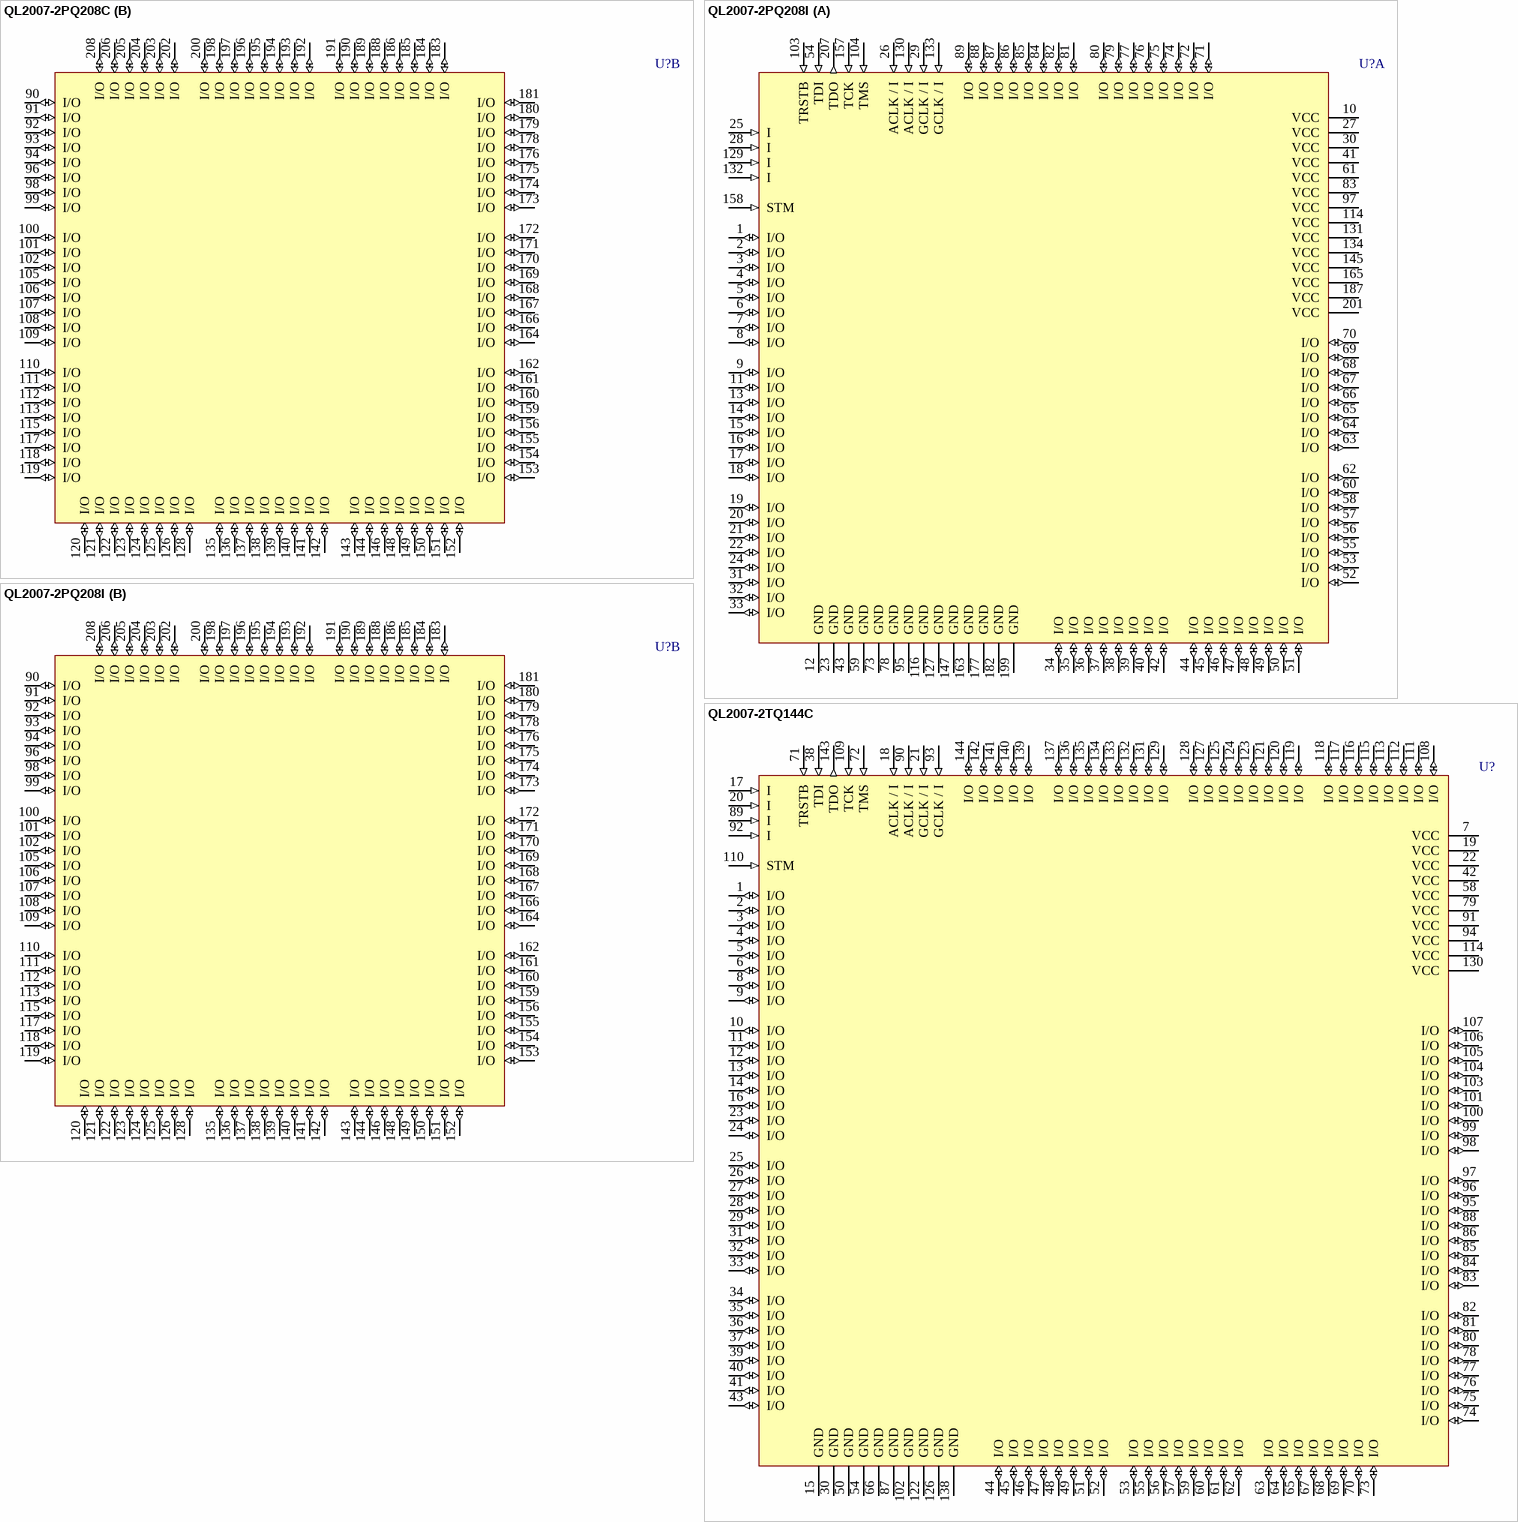
[diagram p22: symbols QL2007-2PQ208C to QL2007-2TQ144C]

## QL2007-2PQ208C
designator U?
3.3V and 5.0V FPGA, 174 I/Os Max; Published: 21-May-2003; LatestRevisionDate: 13-Apr-2006; LatestRevisionNote: IPC-7351 Footprint Added.; DatasheetVersion: Rev. E; PackageVersion: Feb-1995; PackageReference: PQ208; Publisher: Altium Limited; PackageDescription: 208-Pin Shrink Quad Flat Pack 0.5 mm Pitch; ComponentLink1Description: Manufacturer Link; ComponentLink1URL: http://www.quicklogic.com/; ComponentLink2Description: Datasheet; ComponentLink2URL: http://www.quicklogic.com/images/QL2007_DS.pdf; ComponentLink3Description: Discontinuation Notice; ComponentLink3URL: http://www.quicklogic.com/images/EOL_Letter_General.pdf
footprint PQ208_N (Shrink QFP, 208-Leads, Body 28x28mm, Pitch 0.5mm, IPC Medium Density)
footprint PQ208_L (Shrink QFP, 208-Leads, Body 28x28mm, Pitch 0.5mm, IPC High Density)
footprint PQ208_M (Shrink QFP, 208-Leads, Body 28x28mm, Pitch 0.5mm, IPC Low Density)
3D model QL2007-PQ208 (208-Pin Shrink Quad Flat Pack 0.5 mm Pitch)
part A pins: 1 I/O (io), 2 I/O (io), 3 I/O (io), 4 I/O (io), 5 I/O (io), 6 I/O (io), 7 I/O (io), 8 I/O (io), 9 I/O (io), 10 VCC (power), 11 I/O (io), 12 GND (power), 13 I/O (io), 14 I/O (io), 15 I/O (io), 16 I/O (io), 17 I/O (io), 18 I/O (io), 19 I/O (io), 20 I/O (io), 21 I/O (io), 22 I/O (io), 23 GND (power), 24 I/O (io), 25 I (in), 26 ACLK / I (in), 27 VCC (power), 28 I (in), 29 GCLK / I (in), 30 VCC (power), 31 I/O (io), 32 I/O (io), 33 I/O (io), 34 I/O (io), 35 I/O (io), 36 I/O (io), 37 I/O (io), 38 I/O (io), 39 I/O (io), 40 I/O (io), 41 VCC (power), 42 I/O (io), 43 GND (power), 44 I/O (io), 45 I/O (io), 46 I/O (io), 47 I/O (io), 48 I/O (io), 49 I/O (io), 50 I/O (io), 51 I/O (io), 52 I/O (io), 53 I/O (io), 54 TDI (in), 55 I/O (io), 56 I/O (io), 57 I/O (io), 58 I/O (io), 59 GND (power), 60 I/O (io), 61 VCC (power), 62 I/O (io), 63 I/O (io), 64 I/O (io), 65 I/O (io), 66 I/O (io), 67 I/O (io), 68 I/O (io), 69 I/O (io), 70 I/O (io), 71 I/O (io), 72 I/O (io), 73 GND (power), 74 I/O (io), 75 I/O (io), 76 I/O (io), 77 I/O (io), 78 GND (power), 79 I/O (io), 80 I/O (io), 81 I/O (io), 82 I/O (io), 83 VCC (power), 84 I/O (io), 85 I/O (io), 86 I/O (io), 87 I/O (io), 88 I/O (io), 89 I/O (io), 95 GND (power), 97 VCC (power), 103 TRSTB (in), 104 TMS (in), 114 VCC (power), 116 GND (power), 127 GND (power), 129 I (in), 130 ACLK / I (in), 131 VCC (power), 132 I (in), 133 GCLK / I (in), 134 VCC (power), 145 VCC (power), 147 GND (power), 157 TCK (in), 158 STM (in), 163 GND (power), 165 VCC (power), 177 GND (power), 182 GND (power), 187 VCC (power), 199 GND (power), 201 VCC (power), 207 TDO (out)
part B pins: 90 I/O (io), 91 I/O (io), 92 I/O (io), 93 I/O (io), 94 I/O (io), 96 I/O (io), 98 I/O (io), 99 I/O (io), 100 I/O (io), 101 I/O (io), 102 I/O (io), 105 I/O (io), 106 I/O (io), 107 I/O (io), 108 I/O (io), 109 I/O (io), 110 I/O (io), 111 I/O (io), 112 I/O (io), 113 I/O (io), 115 I/O (io), 117 I/O (io), 118 I/O (io), 119 I/O (io), 120 I/O (io), 121 I/O (io), 122 I/O (io), 123 I/O (io), 124 I/O (io), 125 I/O (io), 126 I/O (io), 128 I/O (io), 135 I/O (io), 136 I/O (io), 137 I/O (io), 138 I/O (io), 139 I/O (io), 140 I/O (io), 141 I/O (io), 142 I/O (io), 143 I/O (io), 144 I/O (io), 146 I/O (io), 148 I/O (io), 149 I/O (io), 150 I/O (io), 151 I/O (io), 152 I/O (io), 153 I/O (io), 154 I/O (io), 155 I/O (io), 156 I/O (io), 159 I/O (io), 160 I/O (io), 161 I/O (io), 162 I/O (io), 164 I/O (io), 166 I/O (io), 167 I/O (io), 168 I/O (io), 169 I/O (io), 170 I/O (io), 171 I/O (io), 172 I/O (io), 173 I/O (io), 174 I/O (io), 175 I/O (io), 176 I/O (io), 178 I/O (io), 179 I/O (io), 180 I/O (io), 181 I/O (io), 183 I/O (io), 184 I/O (io), 185 I/O (io), 186 I/O (io), 188 I/O (io), 189 I/O (io), 190 I/O (io), 191 I/O (io), 192 I/O (io), 193 I/O (io), 194 I/O (io), 195 I/O (io), 196 I/O (io), 197 I/O (io), 198 I/O (io), 200 I/O (io), 202 I/O (io), 203 I/O (io), 204 I/O (io), 205 I/O (io), 206 I/O (io), 208 I/O (io)

## QL2007-2PQ208I
designator U?
3.3V and 5.0V FPGA, 174 I/Os Max; Published: 21-May-2003; LatestRevisionDate: 13-Apr-2006; LatestRevisionNote: IPC-7351 Footprint Added.; DatasheetVersion: Rev. E; PackageVersion: Feb-1995; PackageReference: PQ208; Publisher: Altium Limited; PackageDescription: 208-Pin Shrink Quad Flat Pack 0.5 mm Pitch; ComponentLink1Description: Manufacturer Link; ComponentLink1URL: http://www.quicklogic.com/; ComponentLink2Description: Datasheet; ComponentLink2URL: http://www.quicklogic.com/images/QL2007_DS.pdf; ComponentLink3Description: Discontinuation Notice; ComponentLink3URL: http://www.quicklogic.com/images/EOL_Letter_General.pdf
footprint PQ208_N (Shrink QFP, 208-Leads, Body 28x28mm, Pitch 0.5mm, IPC Medium Density)
footprint PQ208_L (Shrink QFP, 208-Leads, Body 28x28mm, Pitch 0.5mm, IPC High Density)
footprint PQ208_M (Shrink QFP, 208-Leads, Body 28x28mm, Pitch 0.5mm, IPC Low Density)
3D model QL2007-PQ208 (208-Pin Shrink Quad Flat Pack 0.5 mm Pitch)
part A pins: 1 I/O (io), 2 I/O (io), 3 I/O (io), 4 I/O (io), 5 I/O (io), 6 I/O (io), 7 I/O (io), 8 I/O (io), 9 I/O (io), 10 VCC (power), 11 I/O (io), 12 GND (power), 13 I/O (io), 14 I/O (io), 15 I/O (io), 16 I/O (io), 17 I/O (io), 18 I/O (io), 19 I/O (io), 20 I/O (io), 21 I/O (io), 22 I/O (io), 23 GND (power), 24 I/O (io), 25 I (in), 26 ACLK / I (in), 27 VCC (power), 28 I (in), 29 GCLK / I (in), 30 VCC (power), 31 I/O (io), 32 I/O (io), 33 I/O (io), 34 I/O (io), 35 I/O (io), 36 I/O (io), 37 I/O (io), 38 I/O (io), 39 I/O (io), 40 I/O (io), 41 VCC (power), 42 I/O (io), 43 GND (power), 44 I/O (io), 45 I/O (io), 46 I/O (io), 47 I/O (io), 48 I/O (io), 49 I/O (io), 50 I/O (io), 51 I/O (io), 52 I/O (io), 53 I/O (io), 54 TDI (in), 55 I/O (io), 56 I/O (io), 57 I/O (io), 58 I/O (io), 59 GND (power), 60 I/O (io), 61 VCC (power), 62 I/O (io), 63 I/O (io), 64 I/O (io), 65 I/O (io), 66 I/O (io), 67 I/O (io), 68 I/O (io), 69 I/O (io), 70 I/O (io), 71 I/O (io), 72 I/O (io), 73 GND (power), 74 I/O (io), 75 I/O (io), 76 I/O (io), 77 I/O (io), 78 GND (power), 79 I/O (io), 80 I/O (io), 81 I/O (io), 82 I/O (io), 83 VCC (power), 84 I/O (io), 85 I/O (io), 86 I/O (io), 87 I/O (io), 88 I/O (io), 89 I/O (io), 95 GND (power), 97 VCC (power), 103 TRSTB (in), 104 TMS (in), 114 VCC (power), 116 GND (power), 127 GND (power), 129 I (in), 130 ACLK / I (in), 131 VCC (power), 132 I (in), 133 GCLK / I (in), 134 VCC (power), 145 VCC (power), 147 GND (power), 157 TCK (in), 158 STM (in), 163 GND (power), 165 VCC (power), 177 GND (power), 182 GND (power), 187 VCC (power), 199 GND (power), 201 VCC (power), 207 TDO (out)
part B pins: 90 I/O (io), 91 I/O (io), 92 I/O (io), 93 I/O (io), 94 I/O (io), 96 I/O (io), 98 I/O (io), 99 I/O (io), 100 I/O (io), 101 I/O (io), 102 I/O (io), 105 I/O (io), 106 I/O (io), 107 I/O (io), 108 I/O (io), 109 I/O (io), 110 I/O (io), 111 I/O (io), 112 I/O (io), 113 I/O (io), 115 I/O (io), 117 I/O (io), 118 I/O (io), 119 I/O (io), 120 I/O (io), 121 I/O (io), 122 I/O (io), 123 I/O (io), 124 I/O (io), 125 I/O (io), 126 I/O (io), 128 I/O (io), 135 I/O (io), 136 I/O (io), 137 I/O (io), 138 I/O (io), 139 I/O (io), 140 I/O (io), 141 I/O (io), 142 I/O (io), 143 I/O (io), 144 I/O (io), 146 I/O (io), 148 I/O (io), 149 I/O (io), 150 I/O (io), 151 I/O (io), 152 I/O (io), 153 I/O (io), 154 I/O (io), 155 I/O (io), 156 I/O (io), 159 I/O (io), 160 I/O (io), 161 I/O (io), 162 I/O (io), 164 I/O (io), 166 I/O (io), 167 I/O (io), 168 I/O (io), 169 I/O (io), 170 I/O (io), 171 I/O (io), 172 I/O (io), 173 I/O (io), 174 I/O (io), 175 I/O (io), 176 I/O (io), 178 I/O (io), 179 I/O (io), 180 I/O (io), 181 I/O (io), 183 I/O (io), 184 I/O (io), 185 I/O (io), 186 I/O (io), 188 I/O (io), 189 I/O (io), 190 I/O (io), 191 I/O (io), 192 I/O (io), 193 I/O (io), 194 I/O (io), 195 I/O (io), 196 I/O (io), 197 I/O (io), 198 I/O (io), 200 I/O (io), 202 I/O (io), 203 I/O (io), 204 I/O (io), 205 I/O (io), 206 I/O (io), 208 I/O (io)

## QL2007-2TQ144C
designator U?
3.3V and 5.0V FPGA, 118 I/Os Max; Published: 21-May-2003; LatestRevisionDate: 13-Apr-2006; LatestRevisionNote: IPC-7351 Footprint Added.; DatasheetVersion: Rev. E; PackageVersion: Feb-1992; PackageReference: PF144; Publisher: Altium Limited; PackageDescription: 144-Pin Thin Plastic Quad Flat Pack 0.5 mm Pitch; ComponentLink1Description: Manufacturer Link; ComponentLink1URL: http://www.quicklogic.com/; ComponentLink2Description: Datasheet; ComponentLink2URL: http://www.quicklogic.com/images/QL2007_DS.pdf; ComponentLink3Description: Discontinuation Notice; ComponentLink3URL: http://www.quicklogic.com/images/EOL_Letter_General.pdf
footprint PF144_N (Thin QFP, 144-Leads, Body 20x20mm, Pitch 0.5mm, IPC Medium Density)
footprint PF144_L (Thin QFP, 144-Leads, Body 20x20mm, Pitch 0.5mm, IPC High Density)
footprint PF144_M (Thin QFP, 144-Leads, Body 20x20mm, Pitch 0.5mm, IPC Low Density)
3D model QL2007-PF144 (144-Pin Thin Plastic Quad Flat Pack 0.5 mm Pitch)
pins: 1 I/O (io), 2 I/O (io), 3 I/O (io), 4 I/O (io), 5 I/O (io), 6 I/O (io), 7 VCC (power), 8 I/O (io), 9 I/O (io), 10 I/O (io), 11 I/O (io), 12 I/O (io), 13 I/O (io), 14 I/O (io), 15 GND (power), 16 I/O (io), 17 I (in), 18 ACLK / I (in), 19 VCC (power), 20 I (in), 21 GCLK / I (in), 22 VCC (power), 23 I/O (io), 24 I/O (io), 25 I/O (io), 26 I/O (io), 27 I/O (io), 28 I/O (io), 29 I/O (io), 30 GND (power), 31 I/O (io), 32 I/O (io), 33 I/O (io), 34 I/O (io), 35 I/O (io), 36 I/O (io), 37 I/O (io), 38 TDI (in), 39 I/O (io), 40 I/O (io), 41 I/O (io), 42 VCC (power), 43 I/O (io), 44 I/O (io), 45 I/O (io), 46 I/O (io), 47 I/O (io), 48 I/O (io), 49 I/O (io), 50 GND (power), 51 I/O (io), 52 I/O (io), 53 I/O (io), 54 GND (power), 55 I/O (io), 56 I/O (io), 57 I/O (io), 58 VCC (power), 59 I/O (io), 60 I/O (io), 61 I/O (io), 62 I/O (io), 63 I/O (io), 64 I/O (io), 65 I/O (io), 66 GND (power), 67 I/O (io), 68 I/O (io), 69 I/O (io), 70 I/O (io), 71 TRSTB (in), 72 TMS (in), 73 I/O (io), 74 I/O (io), 75 I/O (io), 76 I/O (io), 77 I/O (io), 78 I/O (io), 79 VCC (power), 80 I/O (io), 81 I/O (io), 82 I/O (io), 83 I/O (io), 84 I/O (io), 85 I/O (io), 86 I/O (io), 87 GND (power), 88 I/O (io), 89 I (in), 90 ACLK / I (in), 91 VCC (power), 92 I (in), 93 GCLK / I (in), 94 VCC (power), 95 I/O (io), 96 I/O (io), 97 I/O (io), 98 I/O (io), 99 I/O (io), 100 I/O (io), 101 I/O (io), 102 GND (power), 103 I/O (io), 104 I/O (io), 105 I/O (io), 106 I/O (io), 107 I/O (io), 108 I/O (io), 109 TCK (in), 110 STM (in), 111 I/O (io), 112 I/O (io), 113 I/O (io), 114 VCC (power), 115 I/O (io), 116 I/O (io), 117 I/O (io), 118 I/O (io), 119 I/O (io), 120 I/O (io), 121 I/O (io), 122 GND (power), 123 I/O (io), 124 I/O (io), 125 I/O (io), 126 GND (power), 127 I/O (io), 128 I/O (io), 129 I/O (io), 130 VCC (power), 131 I/O (io), 132 I/O (io), 133 I/O (io), 134 I/O (io), 135 I/O (io), 136 I/O (io), 137 I/O (io), 138 GND (power), 139 I/O (io), 140 I/O (io), 141 I/O (io), 142 I/O (io), 143 TDO (out), 144 I/O (io)

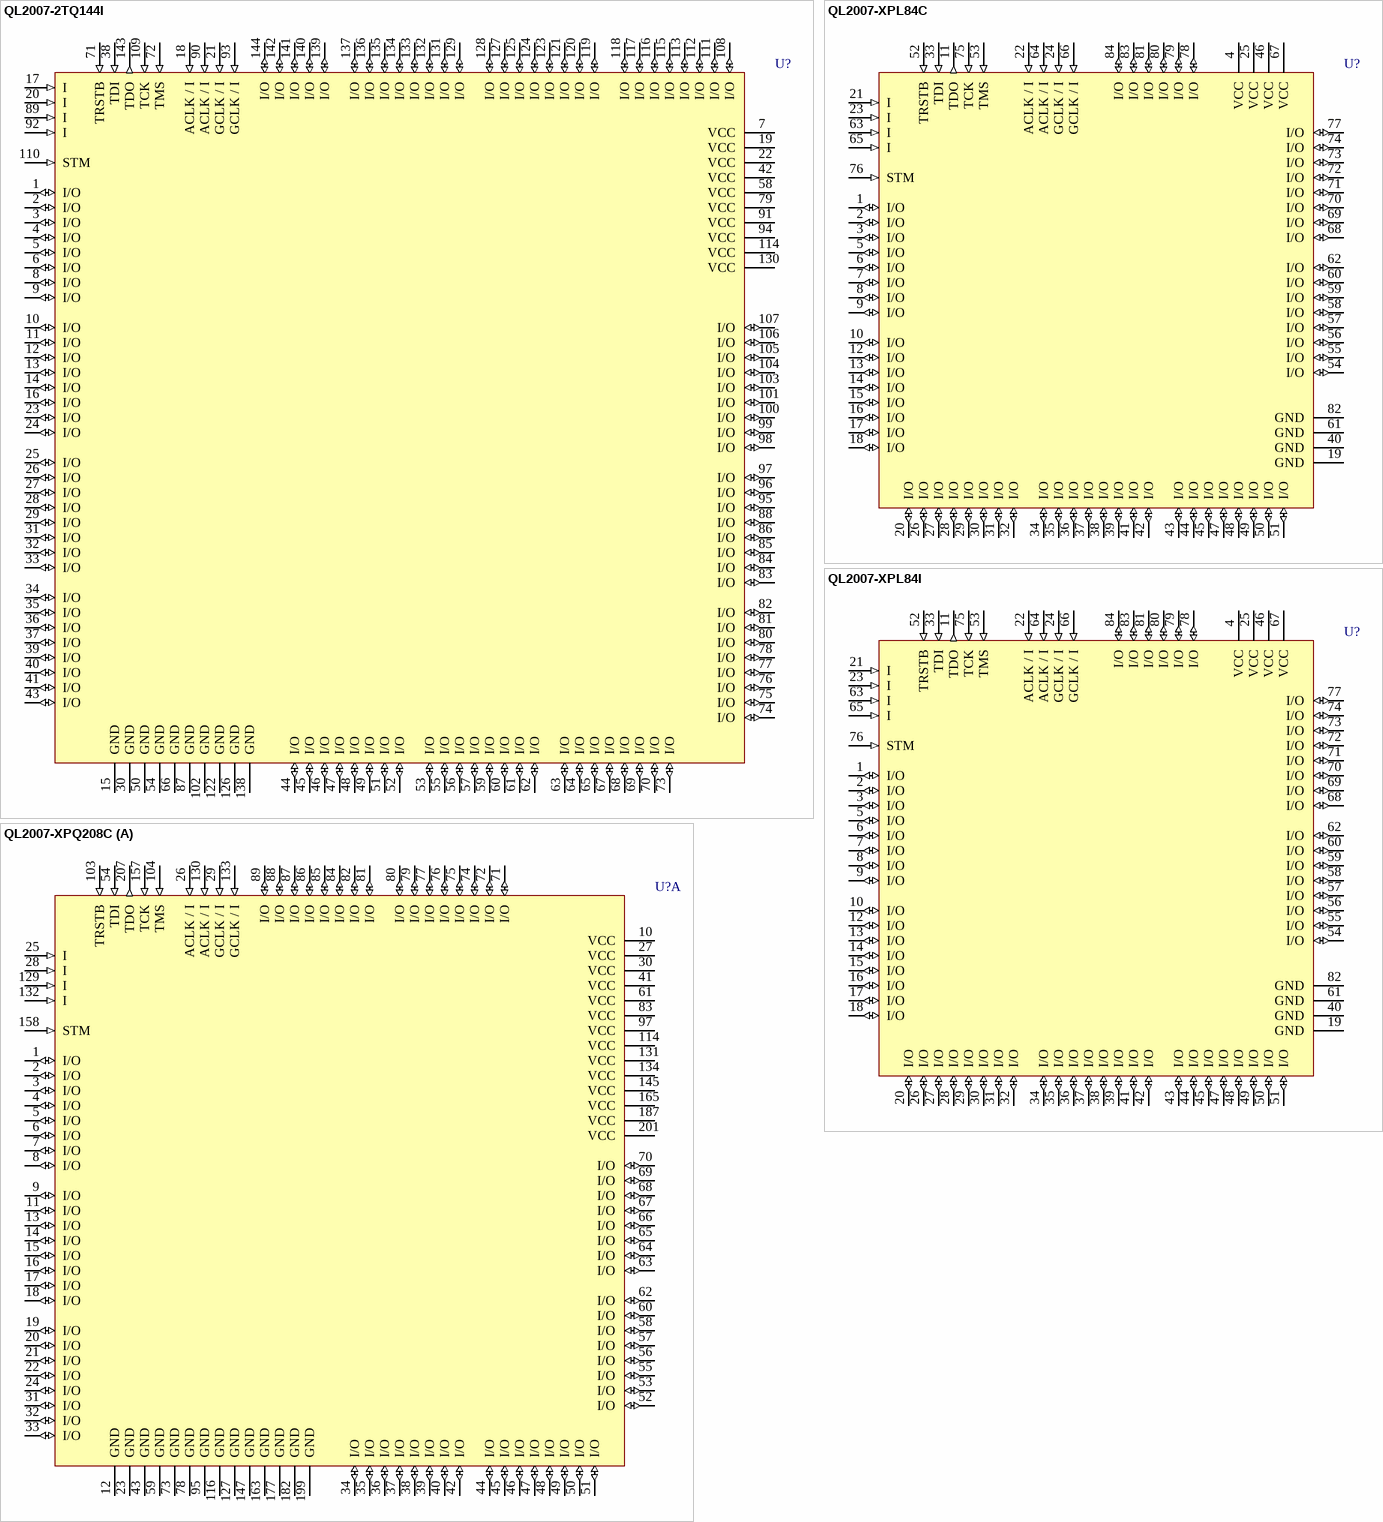
[diagram p23: symbols QL2007-2TQ144I to QL2007-XPQ208C]

## QL2007-2TQ144I
designator U?
3.3V and 5.0V FPGA, 118 I/Os Max; Published: 21-May-2003; LatestRevisionDate: 13-Apr-2006; LatestRevisionNote: IPC-7351 Footprint Added.; DatasheetVersion: Rev. E; PackageVersion: Feb-1992; PackageReference: PF144; Publisher: Altium Limited; PackageDescription: 144-Pin Thin Plastic Quad Flat Pack 0.5 mm Pitch; ComponentLink1Description: Manufacturer Link; ComponentLink1URL: http://www.quicklogic.com/; ComponentLink2Description: Datasheet; ComponentLink2URL: http://www.quicklogic.com/images/QL2007_DS.pdf; ComponentLink3Description: Discontinuation Notice; ComponentLink3URL: http://www.quicklogic.com/images/EOL_Letter_General.pdf
footprint PF144_N (Thin QFP, 144-Leads, Body 20x20mm, Pitch 0.5mm, IPC Medium Density)
footprint PF144_L (Thin QFP, 144-Leads, Body 20x20mm, Pitch 0.5mm, IPC High Density)
footprint PF144_M (Thin QFP, 144-Leads, Body 20x20mm, Pitch 0.5mm, IPC Low Density)
3D model QL2007-PF144 (144-Pin Thin Plastic Quad Flat Pack 0.5 mm Pitch)
pins: 1 I/O (io), 2 I/O (io), 3 I/O (io), 4 I/O (io), 5 I/O (io), 6 I/O (io), 7 VCC (power), 8 I/O (io), 9 I/O (io), 10 I/O (io), 11 I/O (io), 12 I/O (io), 13 I/O (io), 14 I/O (io), 15 GND (power), 16 I/O (io), 17 I (in), 18 ACLK / I (in), 19 VCC (power), 20 I (in), 21 GCLK / I (in), 22 VCC (power), 23 I/O (io), 24 I/O (io), 25 I/O (io), 26 I/O (io), 27 I/O (io), 28 I/O (io), 29 I/O (io), 30 GND (power), 31 I/O (io), 32 I/O (io), 33 I/O (io), 34 I/O (io), 35 I/O (io), 36 I/O (io), 37 I/O (io), 38 TDI (in), 39 I/O (io), 40 I/O (io), 41 I/O (io), 42 VCC (power), 43 I/O (io), 44 I/O (io), 45 I/O (io), 46 I/O (io), 47 I/O (io), 48 I/O (io), 49 I/O (io), 50 GND (power), 51 I/O (io), 52 I/O (io), 53 I/O (io), 54 GND (power), 55 I/O (io), 56 I/O (io), 57 I/O (io), 58 VCC (power), 59 I/O (io), 60 I/O (io), 61 I/O (io), 62 I/O (io), 63 I/O (io), 64 I/O (io), 65 I/O (io), 66 GND (power), 67 I/O (io), 68 I/O (io), 69 I/O (io), 70 I/O (io), 71 TRSTB (in), 72 TMS (in), 73 I/O (io), 74 I/O (io), 75 I/O (io), 76 I/O (io), 77 I/O (io), 78 I/O (io), 79 VCC (power), 80 I/O (io), 81 I/O (io), 82 I/O (io), 83 I/O (io), 84 I/O (io), 85 I/O (io), 86 I/O (io), 87 GND (power), 88 I/O (io), 89 I (in), 90 ACLK / I (in), 91 VCC (power), 92 I (in), 93 GCLK / I (in), 94 VCC (power), 95 I/O (io), 96 I/O (io), 97 I/O (io), 98 I/O (io), 99 I/O (io), 100 I/O (io), 101 I/O (io), 102 GND (power), 103 I/O (io), 104 I/O (io), 105 I/O (io), 106 I/O (io), 107 I/O (io), 108 I/O (io), 109 TCK (in), 110 STM (in), 111 I/O (io), 112 I/O (io), 113 I/O (io), 114 VCC (power), 115 I/O (io), 116 I/O (io), 117 I/O (io), 118 I/O (io), 119 I/O (io), 120 I/O (io), 121 I/O (io), 122 GND (power), 123 I/O (io), 124 I/O (io), 125 I/O (io), 126 GND (power), 127 I/O (io), 128 I/O (io), 129 I/O (io), 130 VCC (power), 131 I/O (io), 132 I/O (io), 133 I/O (io), 134 I/O (io), 135 I/O (io), 136 I/O (io), 137 I/O (io), 138 GND (power), 139 I/O (io), 140 I/O (io), 141 I/O (io), 142 I/O (io), 143 TDO (out), 144 I/O (io)

## QL2007-XPL84C
designator U?
3.3V and 5.0V FPGA, 70 I/Os Max; Published: 21-May-2003; LatestRevisionDate: 13-Apr-2006; LatestRevisionNote: IPC-7351 Footprint Added.; DatasheetVersion: Rev. E; PackageVersion: Feb-1996; PackageReference: PL84; Publisher: Altium Limited; PackageDescription: 84-Pin Plastic Leaded Chip Carrier 1.27 mm Pitch; Code_IPC: PLCC-84; ComponentLink1Description: Manufacturer Link; ComponentLink1URL: http://www.quicklogic.com/; ComponentLink2Description: Datasheet; ComponentLink2URL: http://www.quicklogic.com/images/QL2007_DS.pdf; ComponentLink3Description: Discontinuation Notice; ComponentLink3URL: http://www.quicklogic.com/images/EOL_Letter_General.pdf
footprint PL84_N (Leaded Chip Carrier, 84-Leads, Body 29.3x29.3mm, Pitch 1.27mm, IPC Medium Density)
footprint PL84_L (Leaded Chip Carrier, 84-Leads, Body 29.3x29.3mm, Pitch 1.27mm, IPC High Density)
footprint PL84_M (Leaded Chip Carrier, 84-Leads, Body 29.3x29.3mm, Pitch 1.27mm, IPC Low Density)
3D model QL2007-QCC-J84 (84-Pin Plastic Leaded Chip Carrier 1.27 mm Pitch)
pins: 1 I/O (io), 2 I/O (io), 3 I/O (io), 4 VCC (power), 5 I/O (io), 6 I/O (io), 7 I/O (io), 8 I/O (io), 9 I/O (io), 10 I/O (io), 11 TDO (out), 12 I/O (io), 13 I/O (io), 14 I/O (io), 15 I/O (io), 16 I/O (io), 17 I/O (io), 18 I/O (io), 19 GND (power), 20 I/O (io), 21 I (in), 22 ACLK / I (in), 23 I (in), 24 GCLK / I (in), 25 VCC (power), 26 I/O (io), 27 I/O (io), 28 I/O (io), 29 I/O (io), 30 I/O (io), 31 I/O (io), 32 I/O (io), 33 TDI (in), 34 I/O (io), 35 I/O (io), 36 I/O (io), 37 I/O (io), 38 I/O (io), 39 I/O (io), 40 GND (power), 41 I/O (io), 42 I/O (io), 43 I/O (io), 44 I/O (io), 45 I/O (io), 46 VCC (power), 47 I/O (io), 48 I/O (io), 49 I/O (io), 50 I/O (io), 51 I/O (io), 52 TRSTB (in), 53 TMS (in), 54 I/O (io), 55 I/O (io), 56 I/O (io), 57 I/O (io), 58 I/O (io), 59 I/O (io), 60 I/O (io), 61 GND (power), 62 I/O (io), 63 I (in), 64 ACLK / I (in), 65 I (in), 66 GCLK / I (in), 67 VCC (power), 68 I/O (io), 69 I/O (io), 70 I/O (io), 71 I/O (io), 72 I/O (io), 73 I/O (io), 74 I/O (io), 75 TCK (in), 76 STM (in), 77 I/O (io), 78 I/O (io), 79 I/O (io), 80 I/O (io), 81 I/O (io), 82 GND (power), 83 I/O (io), 84 I/O (io)

## QL2007-XPL84I
designator U?
3.3V and 5.0V FPGA, 70 I/Os Max; Published: 21-May-2003; LatestRevisionDate: 13-Apr-2006; LatestRevisionNote: IPC-7351 Footprint Added.; DatasheetVersion: Rev. E; PackageVersion: Feb-1996; PackageReference: PL84; Publisher: Altium Limited; PackageDescription: 84-Pin Plastic Leaded Chip Carrier 1.27 mm Pitch; Code_IPC: PLCC-84; ComponentLink1Description: Manufacturer Link; ComponentLink1URL: http://www.quicklogic.com/; ComponentLink2Description: Datasheet; ComponentLink2URL: http://www.quicklogic.com/images/QL2007_DS.pdf; ComponentLink3Description: Discontinuation Notice; ComponentLink3URL: http://www.quicklogic.com/images/EOL_Letter_General.pdf
footprint PL84_N (Leaded Chip Carrier, 84-Leads, Body 29.3x29.3mm, Pitch 1.27mm, IPC Medium Density)
footprint PL84_L (Leaded Chip Carrier, 84-Leads, Body 29.3x29.3mm, Pitch 1.27mm, IPC High Density)
footprint PL84_M (Leaded Chip Carrier, 84-Leads, Body 29.3x29.3mm, Pitch 1.27mm, IPC Low Density)
3D model QL2007-QCC-J84 (84-Pin Plastic Leaded Chip Carrier 1.27 mm Pitch)
pins: 1 I/O (io), 2 I/O (io), 3 I/O (io), 4 VCC (power), 5 I/O (io), 6 I/O (io), 7 I/O (io), 8 I/O (io), 9 I/O (io), 10 I/O (io), 11 TDO (out), 12 I/O (io), 13 I/O (io), 14 I/O (io), 15 I/O (io), 16 I/O (io), 17 I/O (io), 18 I/O (io), 19 GND (power), 20 I/O (io), 21 I (in), 22 ACLK / I (in), 23 I (in), 24 GCLK / I (in), 25 VCC (power), 26 I/O (io), 27 I/O (io), 28 I/O (io), 29 I/O (io), 30 I/O (io), 31 I/O (io), 32 I/O (io), 33 TDI (in), 34 I/O (io), 35 I/O (io), 36 I/O (io), 37 I/O (io), 38 I/O (io), 39 I/O (io), 40 GND (power), 41 I/O (io), 42 I/O (io), 43 I/O (io), 44 I/O (io), 45 I/O (io), 46 VCC (power), 47 I/O (io), 48 I/O (io), 49 I/O (io), 50 I/O (io), 51 I/O (io), 52 TRSTB (in), 53 TMS (in), 54 I/O (io), 55 I/O (io), 56 I/O (io), 57 I/O (io), 58 I/O (io), 59 I/O (io), 60 I/O (io), 61 GND (power), 62 I/O (io), 63 I (in), 64 ACLK / I (in), 65 I (in), 66 GCLK / I (in), 67 VCC (power), 68 I/O (io), 69 I/O (io), 70 I/O (io), 71 I/O (io), 72 I/O (io), 73 I/O (io), 74 I/O (io), 75 TCK (in), 76 STM (in), 77 I/O (io), 78 I/O (io), 79 I/O (io), 80 I/O (io), 81 I/O (io), 82 GND (power), 83 I/O (io), 84 I/O (io)

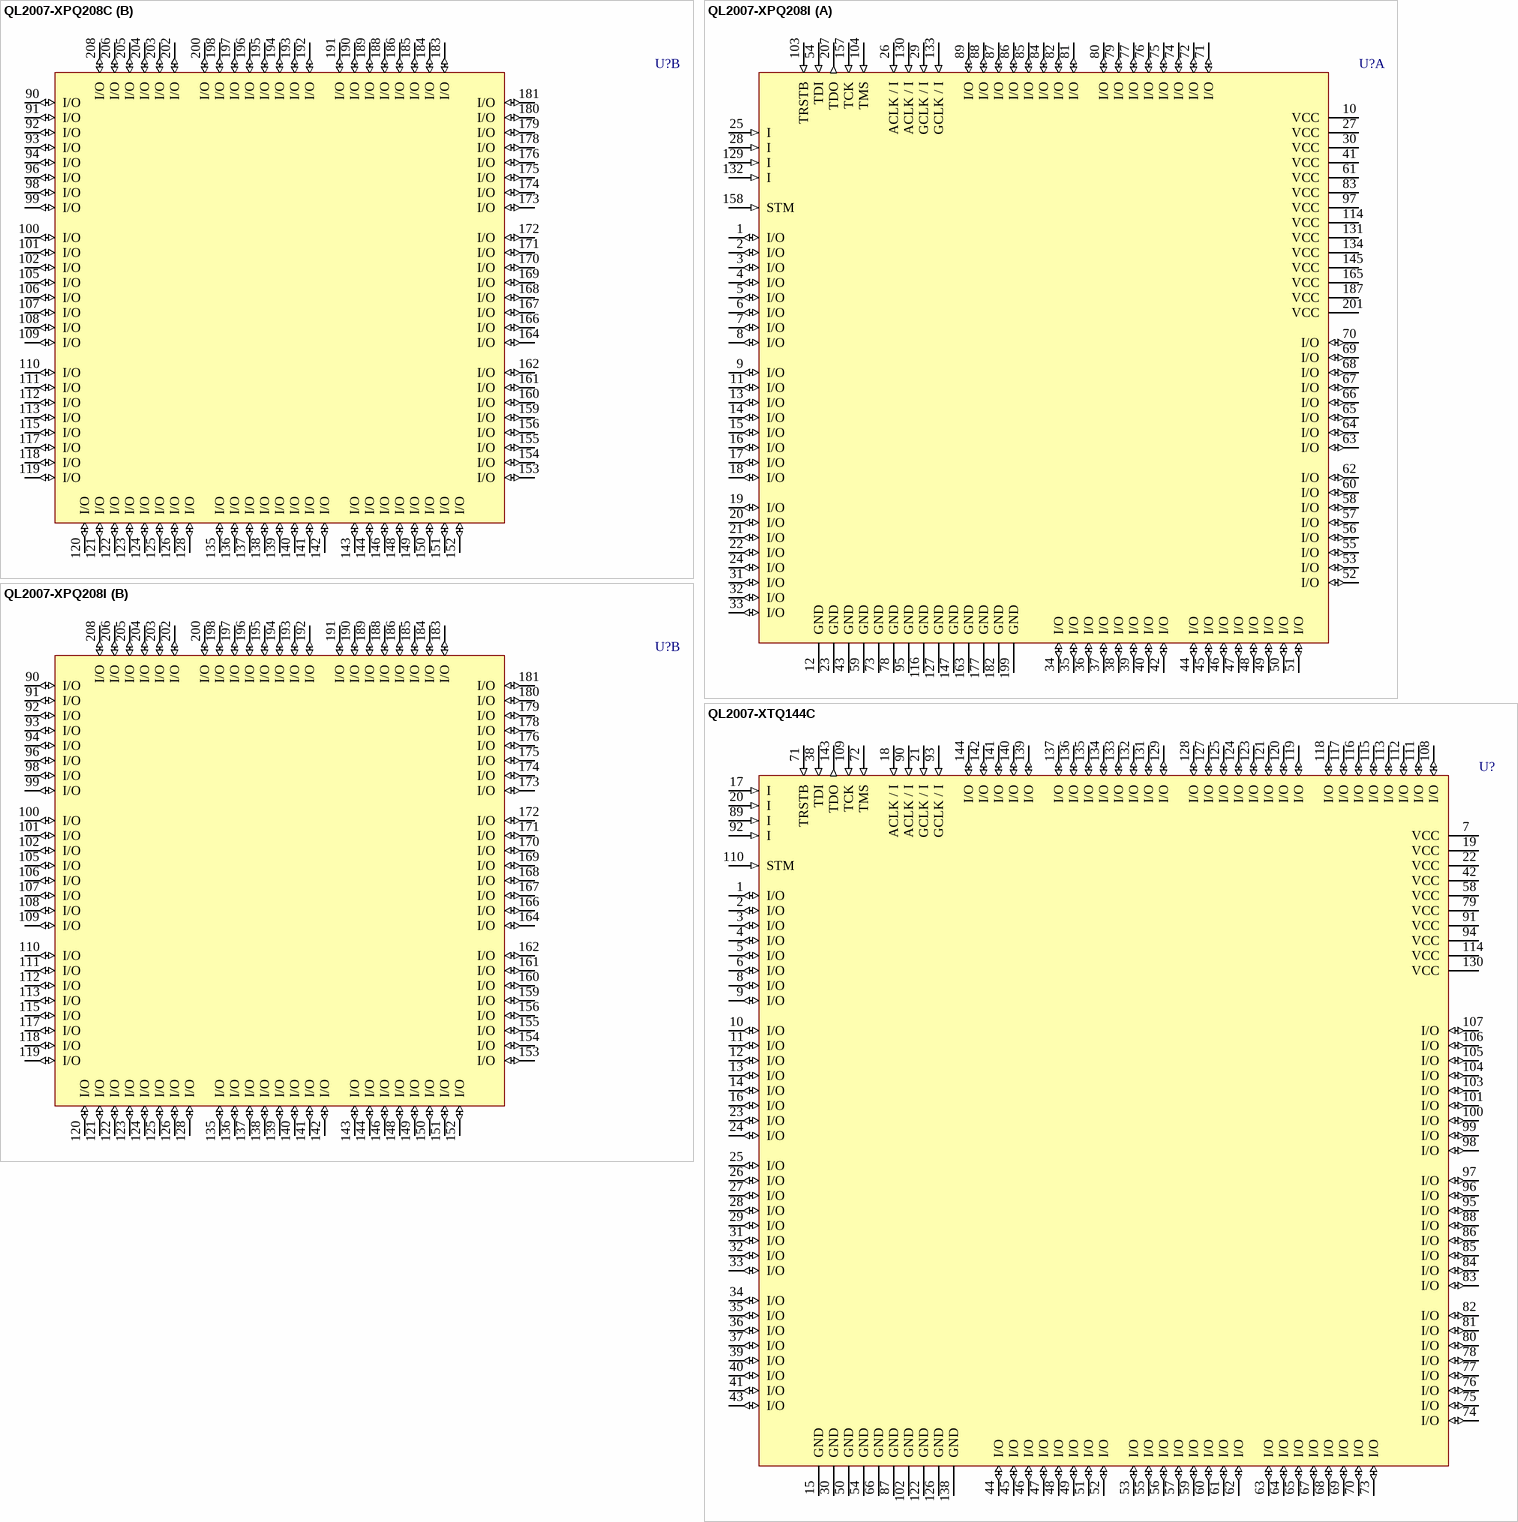
[diagram p24: symbols QL2007-XPQ208C to QL2007-XTQ144C]